# Altium schematic symbol library TTL_Library.SchLib: 480 symbols (part 3 of 4)
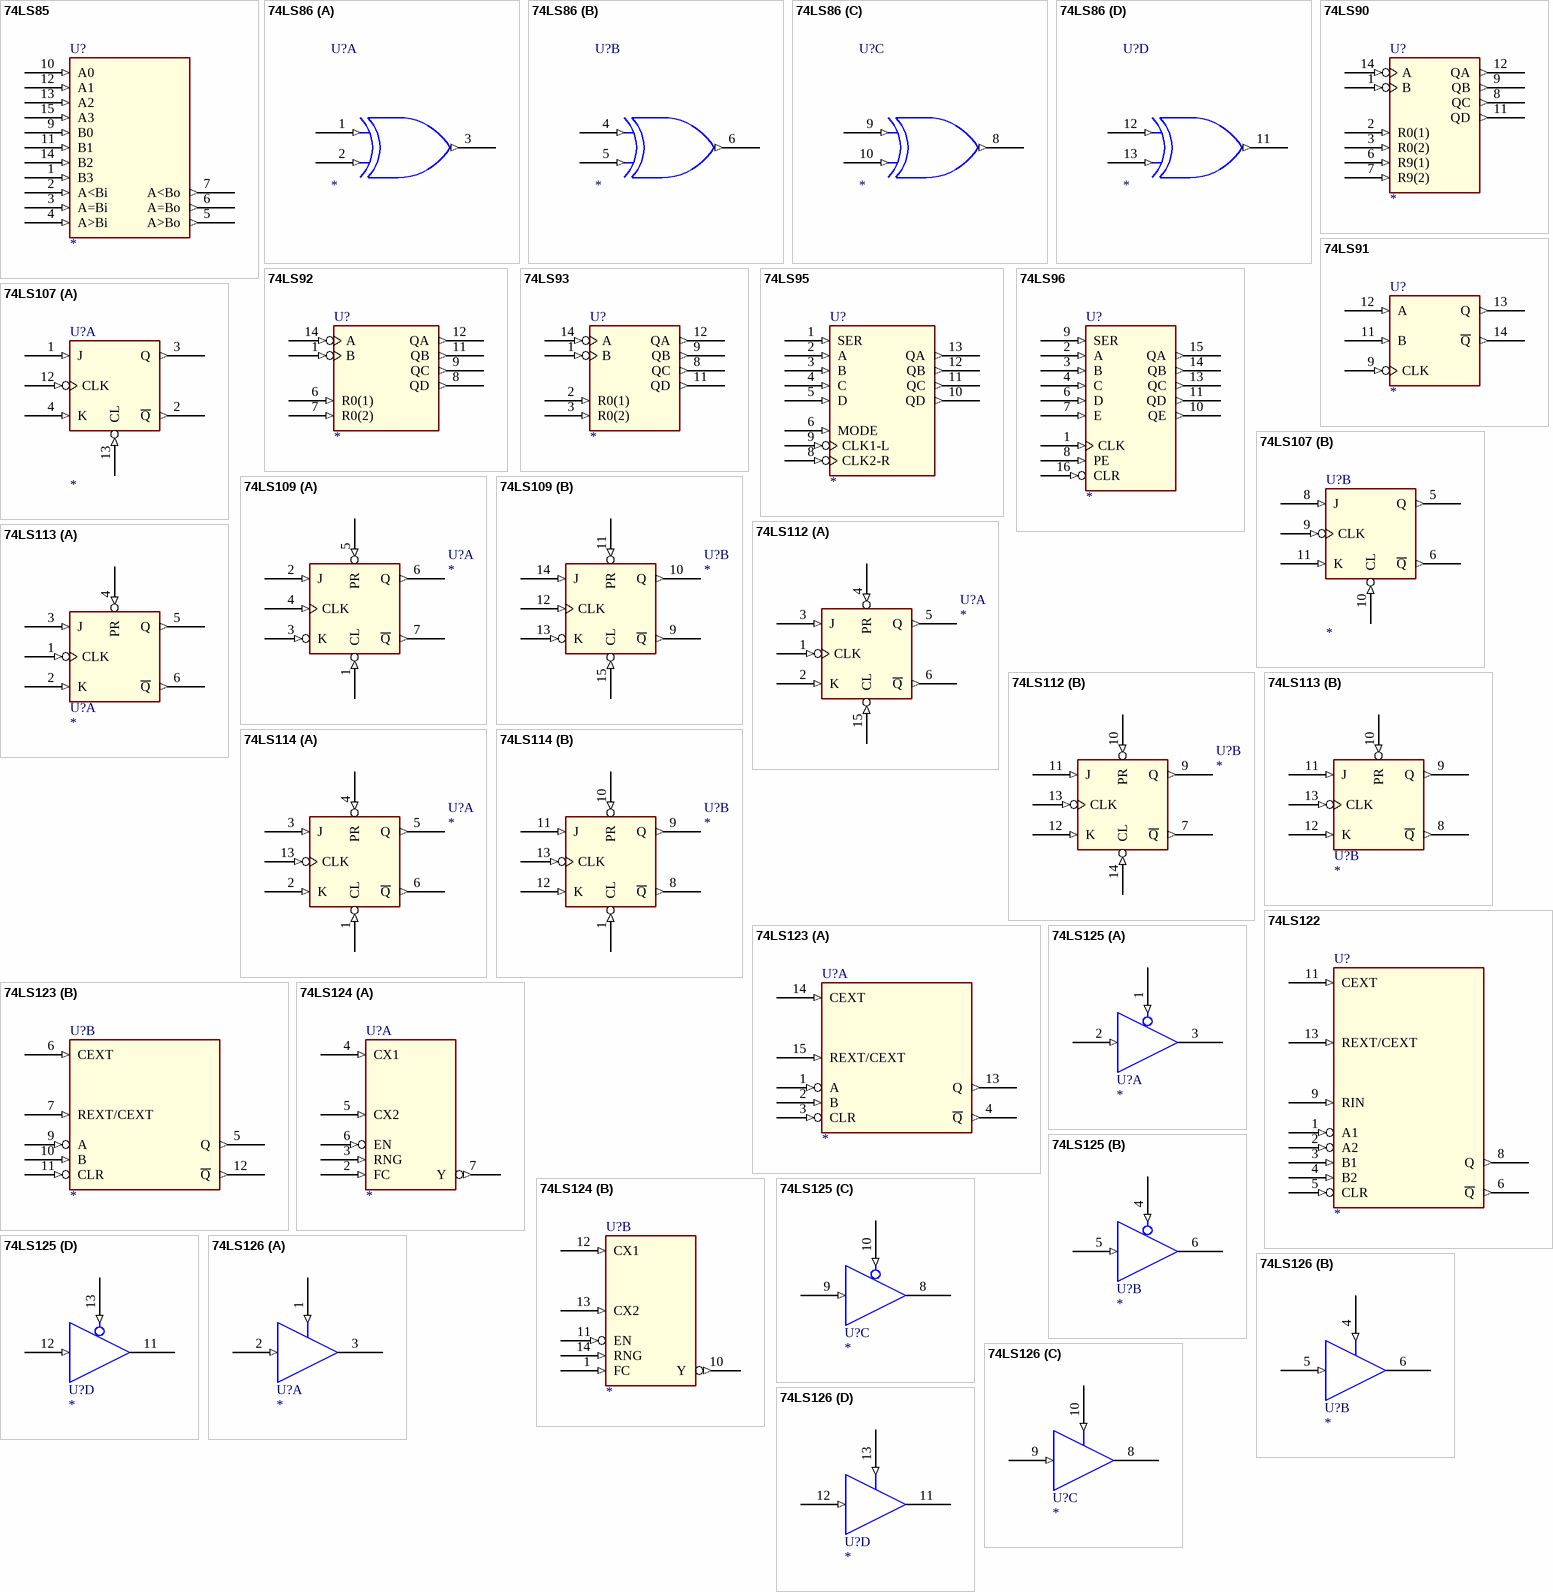
[diagram p27: symbols 74LS85 to 74LS126]

## 74LS92
designator U?
pins: 1 B (in), 5 VCC (power) hidden to VCC, 6 R0(1) (in), 7 R0(2) (in), 8 QD (out), 9 QC (out), 10 GND (power) hidden to GND, 11 QB (out), 12 QA (out), 14 A (in)

## 74LS93
designator U?
pins: 1 B (in), 2 R0(1) (in), 3 R0(2) (in), 5 VCC (power) hidden to VCC, 8 QC (out), 9 QB (out), 10 GND (power) hidden to GND, 11 QD (out), 12 QA (out), 14 A (in)

## 74LS95
designator U?
pins: 1 SER (in), 2 A (in), 3 B (in), 4 C (in), 5 D (in), 6 MODE (in), 7 GND (power) hidden to GND, 8 CLK2-R (in), 9 CLK1-L (in), 10 QD (out), 11 QC (out), 12 QB (out), 13 QA (out), 14 VCC (power) hidden to VCC

## 74LS96
designator U?
pins: 1 CLK (in), 2 A (in), 3 B (in), 4 C (in), 5 VCC (power) hidden to VCC, 6 D (in), 7 E (in), 8 PE (in), 9 SER (in), 10 QE (out), 11 QD (out), 12 GND (power) hidden to GND, 13 QC (out), 14 QB (out), 15 QA (out), 16 CLR (in)

## 74LS107
designator U?
part A pins: 1 J (in), 2 ~{Q} (out), 3 Q (out), 4 K (in), 7 GND (power) hidden to GND, 12 CLK (in), 13 CL (in), 14 VCC (power) hidden to VCC
part B pins: 5 Q (out), 6 ~{Q} (out), 7 GND (power) hidden to GND, 8 J (in), 9 CLK (in), 10 CL (in), 11 K (in), 14 VCC (power) hidden to VCC

## 74LS109
designator U?
part A pins: 1 CL (in), 2 J (in), 3 K (in), 4 CLK (in), 5 PR (in), 6 Q (out), 7 ~{Q} (out), 8 GND (power) hidden to GND, 16 VCC (power) hidden to VCC
part B pins: 8 GND (power) hidden to GND, 9 ~{Q} (out), 10 Q (out), 11 PR (in), 12 CLK (in), 13 K (in), 14 J (in), 15 CL (in), 16 VCC (power) hidden to VCC

## 74LS112
designator U?
part A pins: 1 CLK (in), 2 K (in), 3 J (in), 4 PR (in), 5 Q (out), 6 ~{Q} (out), 8 GND (power) hidden to GND, 15 CL (in), 16 VCC (power) hidden to VCC
part B pins: 7 ~{Q} (out), 8 GND (power) hidden to GND, 9 Q (out), 10 PR (in), 11 J (in), 12 K (in), 13 CLK (in), 14 CL (in), 16 VCC (power) hidden to VCC

## 74LS113
designator U?
part A pins: 1 CLK (in), 2 K (in), 3 J (in), 4 PR (in), 5 Q (out), 6 ~{Q} (out), 7 GND (power) hidden to GND, 14 VCC (power) hidden to VCC
part B pins: 7 GND (power) hidden to GND, 8 ~{Q} (out), 9 Q (out), 10 PR (in), 11 J (in), 12 K (in), 13 CLK (in), 14 VCC (power) hidden to VCC

## 74LS114
designator U?
part A pins: 1 CL (in), 2 K (in), 3 J (in), 4 PR (in), 5 Q (out), 6 ~{Q} (out), 7 GND (power) hidden to GND, 13 CLK (in), 14 VCC (power) hidden to VCC
part B pins: 1 CL (in), 7 GND (power) hidden to GND, 8 ~{Q} (out), 9 Q (out), 10 PR (in), 11 J (in), 12 K (in), 13 CLK (in), 14 VCC (power) hidden to VCC

## 74LS122
designator U?
pins: 1 A1 (in), 2 A2 (in), 3 B1 (in), 4 B2 (in), 5 CLR (in), 6 ~{Q} (out), 7 GND (power) hidden to GND, 8 Q (out), 9 RIN (in), 11 CEXT (in), 13 REXT/CEXT (in), 14 VCC (power) hidden to VCC

## 74LS123
designator U?
part A pins: 1 A (in), 2 B (in), 3 CLR (in), 4 ~{Q} (out), 8 GND (power) hidden to GND, 13 Q (out), 14 CEXT (in), 15 REXT/CEXT (in), 16 VCC (power) hidden to VCC
part B pins: 5 Q (out), 6 CEXT (in), 7 REXT/CEXT (in), 8 GND (power) hidden to GND, 9 A (in), 10 B (in), 11 CLR (in), 12 ~{Q} (out), 16 VCC (power) hidden to VCC

## 74LS124
designator U?
part A pins: 2 FC (in), 3 RNG (in), 4 CX1 (in), 5 CX2 (in), 6 EN (in), 7 Y (out), 8 VCOGND (power) hidden to VCOGND, 9 GND (power) hidden to GND, 15 VCOVCC (power) hidden to VCOVCC, 16 VCC (power) hidden to VCC
part B pins: 1 FC (in), 8 VCOGND (power) hidden to VCOGND, 9 GND (power) hidden to GND, 10 Y (out), 11 EN (in), 12 CX1 (in), 13 CX2 (in), 14 RNG (in), 15 VCOVCC (power) hidden to VCOVCC, 16 VCC (power) hidden to VCC

## 74LS125
designator U?
part A pins: 1 OE (in), 2 I (in), 3 O (hiz), 7 GND (power) hidden to GND, 14 VCC (power) hidden to VCC
part B pins: 4 OE (in), 5 I (in), 6 O (hiz), 7 GND (power) hidden to GND, 14 VCC (power) hidden to VCC
part C pins: 7 GND (power) hidden to GND, 8 O (hiz), 9 I (in), 10 OE (in), 14 VCC (power) hidden to VCC
part D pins: 7 GND (power) hidden to GND, 11 O (hiz), 12 I (in), 13 OE (in), 14 VCC (power) hidden to VCC
1 alternate drawing of the same symbol

## 74LS126
designator U?
part A pins: 1 OE (in), 2 I (in), 3 O (hiz), 7 GND (power) hidden to GND, 14 VCC (power) hidden to VCC
part B pins: 4 OE (in), 5 I (in), 6 O (hiz), 7 GND (power) hidden to GND, 14 VCC (power) hidden to VCC
part C pins: 7 GND (power) hidden to GND, 8 O (hiz), 9 I (in), 10 OE (in), 14 VCC (power) hidden to VCC
part D pins: 7 GND (power) hidden to GND, 11 O (hiz), 12 I (in), 13 OE (in), 14 VCC (power) hidden to VCC
1 alternate drawing of the same symbol

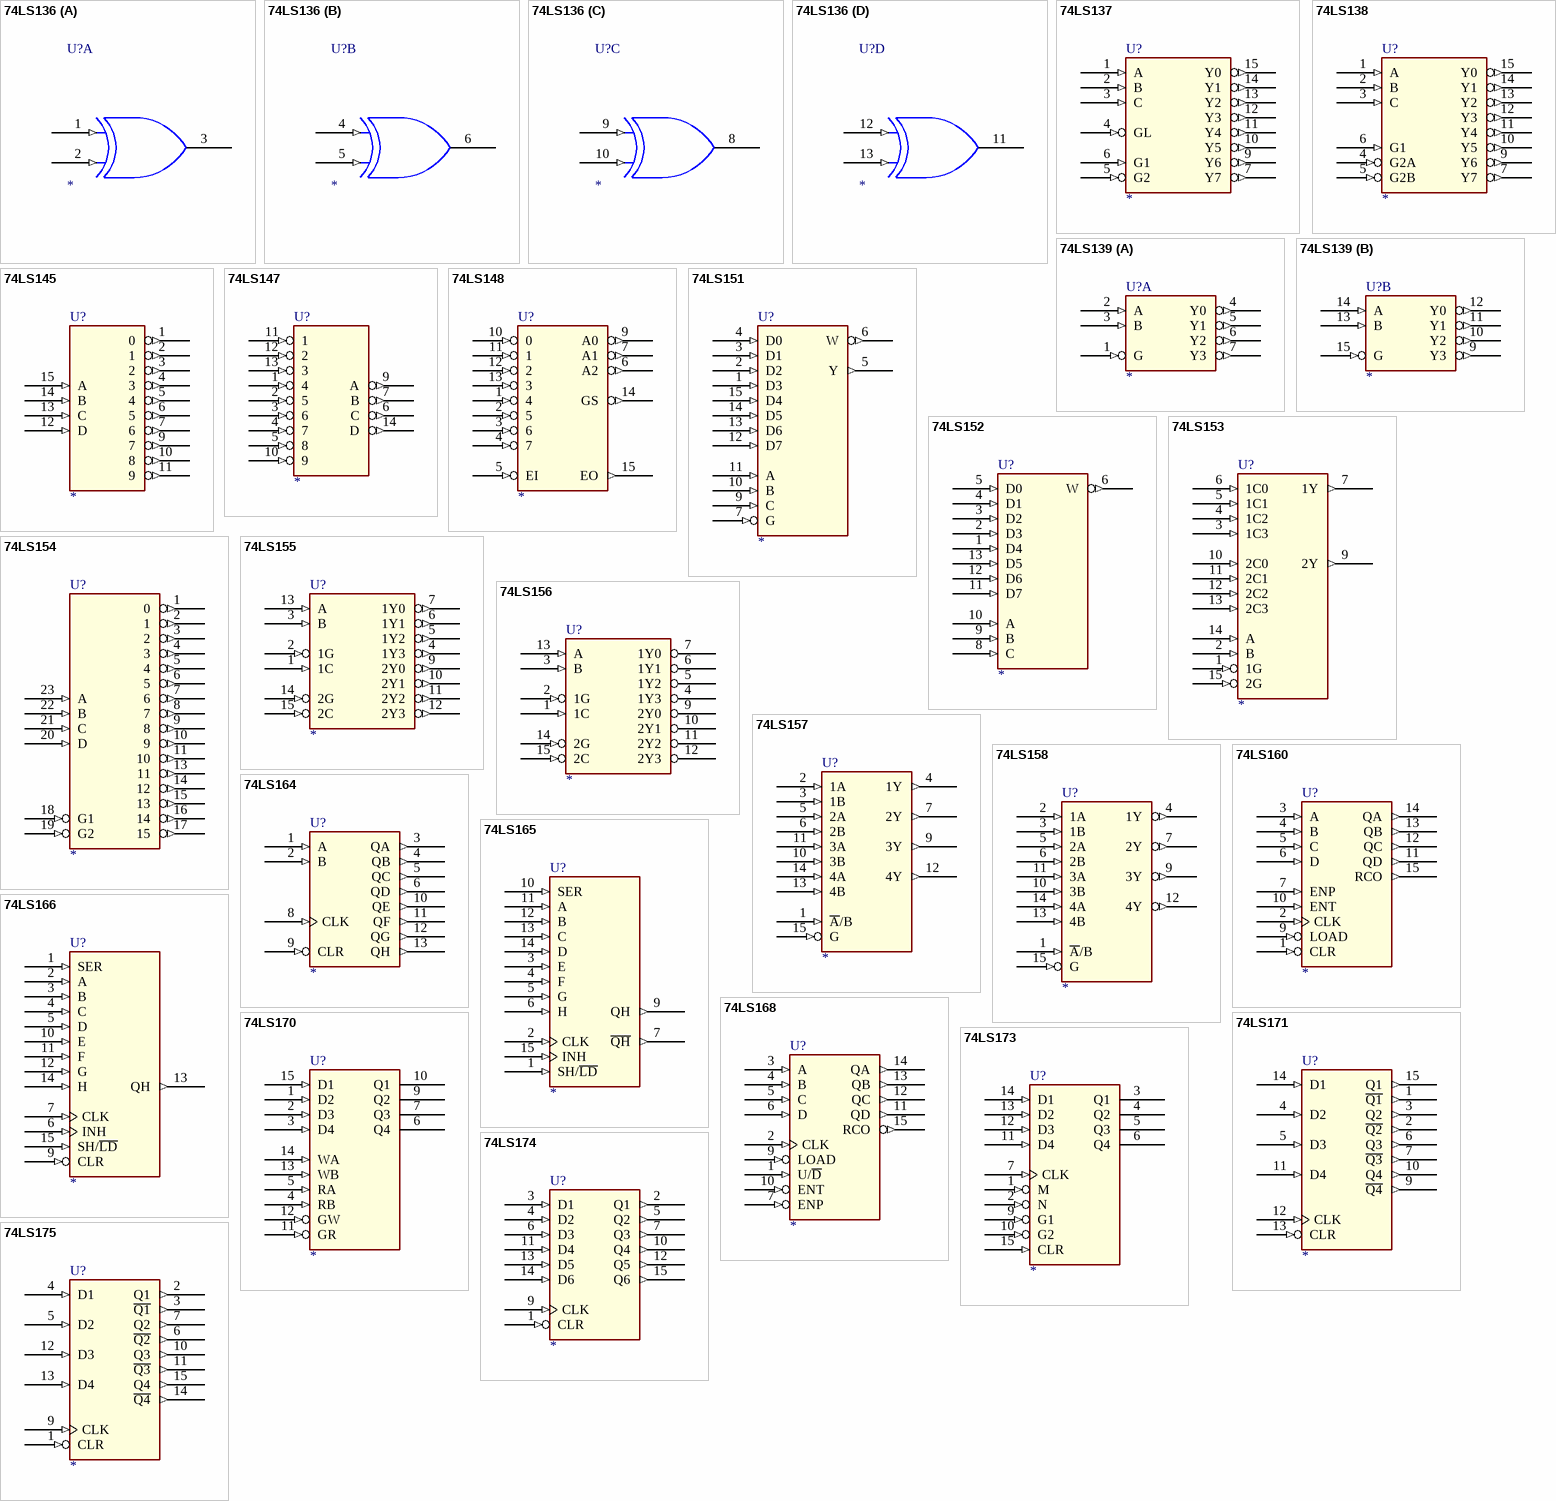
[diagram p16: symbols 74LS136 to 74LS175]

## 74LS136
designator U?
part A pins: 1 I0 (in), 2 I1 (in), 3 O (oc), 7 GND (power) hidden to GND, 14 VCC (power) hidden to VCC
part B pins: 4 I0 (in), 5 I1 (in), 6 O (oc), 7 GND (power) hidden to GND, 14 VCC (power) hidden to VCC
part C pins: 7 GND (power) hidden to GND, 8 O (oc), 9 I0 (in), 10 I1 (in), 14 VCC (power) hidden to VCC
part D pins: 7 GND (power) hidden to GND, 11 O (oc), 12 I0 (in), 13 I1 (in), 14 VCC (power) hidden to VCC

## 74LS137
designator U?
pins: 1 A (in), 2 B (in), 3 C (in), 4 GL (in), 5 G2 (in), 6 G1 (in), 7 Y7 (out), 8 GND (power) hidden to GND, 9 Y6 (out), 10 Y5 (out), 11 Y4 (out), 12 Y3 (out), 13 Y2 (out), 14 Y1 (out), 15 Y0 (out), 16 VCC (power) hidden to VCC

## 74LS138
designator U?
pins: 1 A (in), 2 B (in), 3 C (in), 4 G2A (in), 5 G2B (in), 6 G1 (in), 7 Y7 (out), 8 GND (power) hidden to GND, 9 Y6 (out), 10 Y5 (out), 11 Y4 (out), 12 Y3 (out), 13 Y2 (out), 14 Y1 (out), 15 Y0 (out), 16 VCC (power) hidden to VCC

## 74LS139
designator U?
part A pins: 1 G (in), 2 A (in), 3 B (in), 4 Y0 (out), 5 Y1 (out), 6 Y2 (out), 7 Y3 (out), 8 GND (power) hidden to GND, 16 VCC (power) hidden to VCC
part B pins: 8 GND (power) hidden to GND, 9 Y3 (out), 10 Y2 (out), 11 Y1 (out), 12 Y0 (out), 13 B (in), 14 A (in), 15 G (in), 16 VCC (power) hidden to VCC

## 74LS145
designator U?
pins: 1 0 (out), 2 1 (out), 3 2 (out), 4 3 (out), 5 4 (out), 6 5 (out), 7 6 (out), 8 GND (power) hidden to GND, 9 7 (out), 10 8 (out), 11 9 (out), 12 D (in), 13 C (in), 14 B (in), 15 A (in), 16 VCC (power) hidden to VCC

## 74LS147
designator U?
pins: 1 4 (in), 2 5 (in), 3 6 (in), 4 7 (in), 5 8 (in), 6 C (out), 7 B (out), 8 GND (power) hidden to GND, 9 A (out), 10 9 (in), 11 1 (in), 12 2 (in), 13 3 (in), 14 D (out), 16 VCC (power) hidden to VCC

## 74LS148
designator U?
pins: 1 4 (in), 2 5 (in), 3 6 (in), 4 7 (in), 5 EI (in), 6 A2 (out), 7 A1 (out), 8 GND (power) hidden to GND, 9 A0 (out), 10 0 (in), 11 1 (in), 12 2 (in), 13 3 (in), 14 GS (out), 15 EO (out), 16 VCC (power) hidden to VCC

## 74LS151
designator U?
pins: 1 D3 (in), 2 D2 (in), 3 D1 (in), 4 D0 (in), 5 Y (out), 6 W (out), 7 G (in), 8 GND (power) hidden to GND, 9 C (in), 10 B (in), 11 A (in), 12 D7 (in), 13 D6 (in), 14 D5 (in), 15 D4 (in), 16 VCC (power) hidden to VCC

## 74LS152
designator U?
pins: 1 D4 (in), 2 D3 (in), 3 D2 (in), 4 D1 (in), 5 D0 (in), 6 W (out), 7 GND (power) hidden to GND, 8 C (in), 9 B (in), 10 A (in), 11 D7 (in), 12 D6 (in), 13 D5 (in), 14 VCC (power) hidden to VCC

## 74LS153
designator U?
pins: 1 1G (in), 2 B (in), 3 1C3 (in), 4 1C2 (in), 5 1C1 (in), 6 1C0 (in), 7 1Y (out), 8 GND (power) hidden to GND, 9 2Y (out), 10 2C0 (in), 11 2C1 (in), 12 2C2 (in), 13 2C3 (in), 14 A (in), 15 2G (in), 16 VCC (power) hidden to VCC

## 74LS154
designator U?
pins: 1 0 (out), 2 1 (out), 3 2 (out), 4 3 (out), 5 4 (out), 6 5 (out), 7 6 (out), 8 7 (out), 9 8 (out), 10 9 (out), 11 10 (out), 12 GND (power) hidden to GND, 13 11 (out), 14 12 (out), 15 13 (out), 16 14 (out), 17 15 (out), 18 G1 (in), 19 G2 (in), 20 D (in), 21 C (in), 22 B (in), 23 A (in), 24 VCC (power) hidden to VCC

## 74LS155
designator U?
pins: 1 1C (in), 2 1G (in), 3 B (in), 4 1Y3 (out), 5 1Y2 (out), 6 1Y1 (out), 7 1Y0 (out), 8 GND (power) hidden to GND, 9 2Y0 (out), 10 2Y1 (out), 11 2Y2 (out), 12 2Y3 (out), 13 A (in), 14 2G (in), 15 2C (in), 16 VCC (power) hidden to VCC

## 74LS156
designator U?
pins: 1 1C (in), 2 1G (in), 3 B (in), 4 1Y3 (oc), 5 1Y2 (oc), 6 1Y1 (oc), 7 1Y0 (oc), 8 GND (power) hidden to GND, 9 2Y0 (oc), 10 2Y1 (oc), 11 2Y2 (oc), 12 2Y3 (oc), 13 A (in), 14 2G (in), 15 2C (in), 16 VCC (power) hidden to VCC

## 74LS157
designator U?
pins: 1 ~{A}/B (in), 2 1A (in), 3 1B (in), 4 1Y (out), 5 2A (in), 6 2B (in), 7 2Y (out), 8 GND (power) hidden to GND, 9 3Y (out), 10 3B (in), 11 3A (in), 12 4Y (out), 13 4B (in), 14 4A (in), 15 G (in), 16 VCC (power) hidden to VCC

## 74LS158
designator U?
pins: 1 ~{A}/B (in), 2 1A (in), 3 1B (in), 4 1Y (out), 5 2A (in), 6 2B (in), 7 2Y (out), 8 GND (power) hidden to GND, 9 3Y (out), 10 3B (in), 11 3A (in), 12 4Y (out), 13 4B (in), 14 4A (in), 15 G (in), 16 VCC (power) hidden to VCC

## 74LS160
designator U?
pins: 1 CLR (in), 2 CLK (in), 3 A (in), 4 B (in), 5 C (in), 6 D (in), 7 ENP (in), 8 GND (power) hidden to GND, 9 LOAD (in), 10 ENT (in), 11 QD (out), 12 QC (out), 13 QB (out), 14 QA (out), 15 RCO (out), 16 VCC (power) hidden to VCC

## 74LS164
designator U?
pins: 1 A (in), 2 B (in), 3 QA (out), 4 QB (out), 5 QC (out), 6 QD (out), 7 GND (power) hidden to GND, 8 CLK (in), 9 CLR (in), 10 QE (out), 11 QF (out), 12 QG (out), 13 QH (out), 14 VCC (power) hidden to VCC

## 74LS165
designator U?
pins: 1 SH/~{LD} (in), 2 CLK (in), 3 E (in), 4 F (in), 5 G (in), 6 H (in), 7 ~{QH} (out), 8 GND (power) hidden to GND, 9 QH (out), 10 SER (in), 11 A (in), 12 B (in), 13 C (in), 14 D (in), 15 INH (in), 16 VCC (power) hidden to VCC

## 74LS166
designator U?
pins: 1 SER (in), 2 A (in), 3 B (in), 4 C (in), 5 D (in), 6 INH (in), 7 CLK (in), 8 GND (power) hidden to GND, 9 CLR (in), 10 E (in), 11 F (in), 12 G (in), 13 QH (out), 14 H (in), 15 SH/~{LD} (in), 16 VCC (power) hidden to VCC

## 74LS168
designator U?
pins: 1 U/~{D} (in), 2 CLK (in), 3 A (in), 4 B (in), 5 C (in), 6 D (in), 7 ENP (in), 8 GND (power) hidden to GND, 9 LOAD (in), 10 ENT (in), 11 QD (out), 12 QC (out), 13 QB (out), 14 QA (out), 15 RCO (out), 16 VCC (power) hidden to VCC

## 74LS170
designator U?
pins: 1 D2 (in), 2 D3 (in), 3 D4 (in), 4 RB (in), 5 RA (in), 6 Q4 (oc), 7 Q3 (oc), 8 GND (power) hidden to GND, 9 Q2 (oc), 10 Q1 (oc), 11 GR (in), 12 GW (in), 13 WB (in), 14 WA (in), 15 D1 (in), 16 VCC (power) hidden to VCC

## 74LS171
designator U?
pins: 1 ~{Q1} (out), 2 ~{Q2} (out), 3 Q2 (out), 4 D2 (in), 5 D3 (in), 6 Q3 (out), 7 ~{Q3} (out), 8 GND (power) hidden to GND, 9 ~{Q4} (out), 10 Q4 (out), 11 D4 (in), 12 CLK (in), 13 CLR (in), 14 D1 (in), 15 Q1 (out), 16 VCC (power) hidden to VCC

## 74LS173
designator U?
pins: 1 M (in), 2 N (in), 3 Q1 (hiz), 4 Q2 (hiz), 5 Q3 (hiz), 6 Q4 (hiz), 7 CLK (in), 8 GND (power) hidden to GND, 9 G1 (in), 10 G2 (in), 11 D4 (in), 12 D3 (in), 13 D2 (in), 14 D1 (in), 15 CLR (in), 16 VCC (power) hidden to VCC

## 74LS174
designator U?
pins: 1 CLR (in), 2 Q1 (out), 3 D1 (in), 4 D2 (in), 5 Q2 (out), 6 D3 (in), 7 Q3 (out), 8 GND (power) hidden to GND, 9 CLK (in), 10 Q4 (out), 11 D4 (in), 12 Q5 (out), 13 D5 (in), 14 D6 (in), 15 Q6 (out), 16 VCC (power) hidden to VCC

## 74LS175
designator U?
pins: 1 CLR (in), 2 Q1 (out), 3 ~{Q1} (out), 4 D1 (in), 5 D2 (in), 6 ~{Q2} (out), 7 Q2 (out), 8 GND (power) hidden to GND, 9 CLK (in), 10 Q3 (out), 11 ~{Q3} (out), 12 D3 (in), 13 D4 (in), 14 ~{Q4} (out), 15 Q4 (out), 16 VCC (power) hidden to VCC

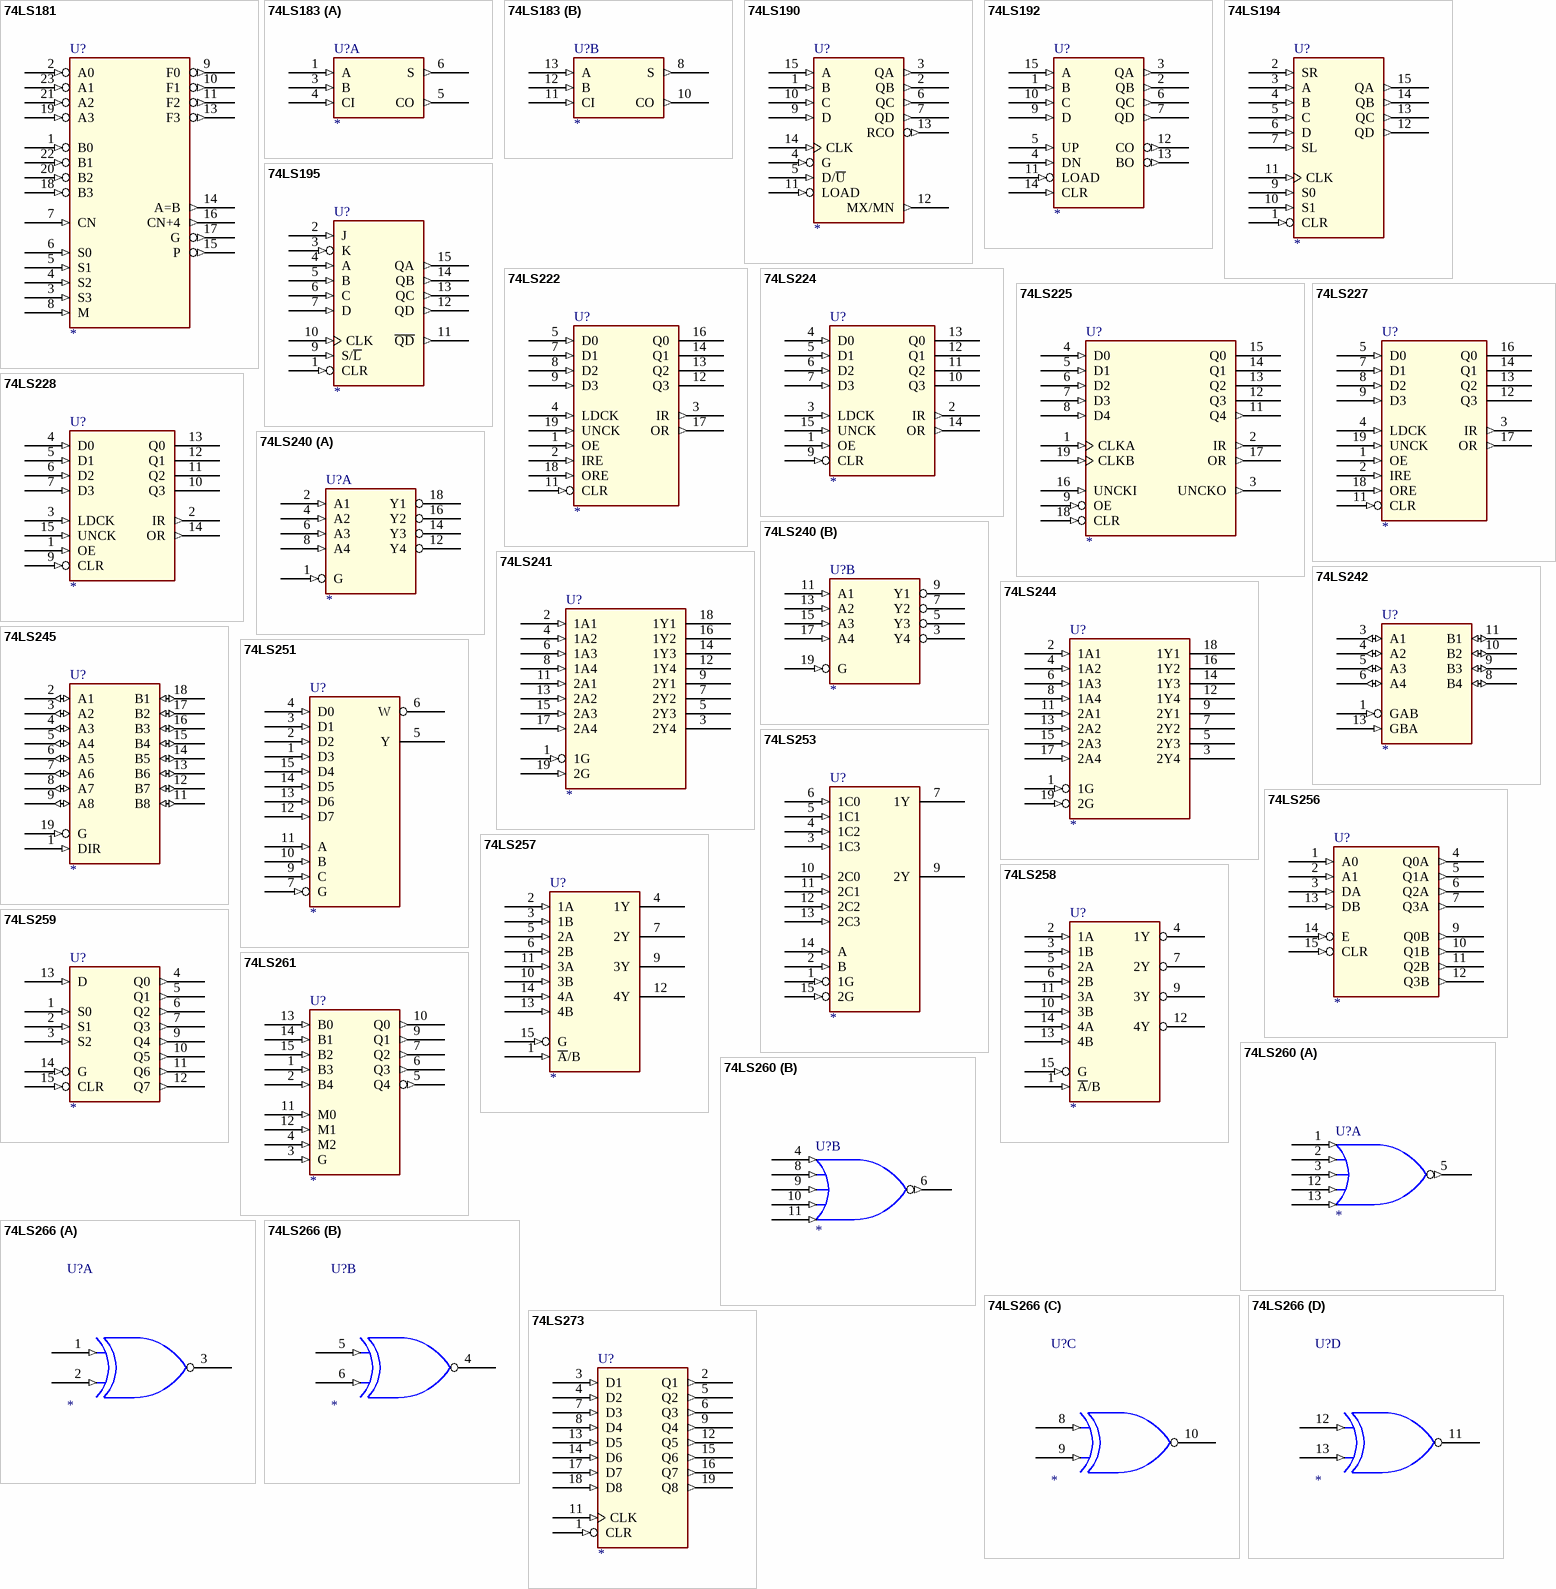
[diagram p17: symbols 74LS181 to 74LS273]

## 74LS181
designator U?
pins: 1 B0 (in), 2 A0 (in), 3 S3 (in), 4 S2 (in), 5 S1 (in), 6 S0 (in), 7 CN (in), 8 M (in), 9 F0 (out), 10 F1 (out), 11 F2 (out), 12 GND (power) hidden to GND, 13 F3 (out), 14 A=B (out), 15 P (out), 16 CN+4 (out), 17 G (out), 18 B3 (in), 19 A3 (in), 20 B2 (in), 21 A2 (in), 22 B1 (in), 23 A1 (in), 24 VCC (power) hidden to VCC

## 74LS183
designator U?
part A pins: 1 A (in), 3 B (in), 4 CI (in), 5 CO (out), 6 S (out), 7 GND (power) hidden to GND, 14 VCC (power) hidden to VCC
part B pins: 7 GND (power) hidden to GND, 8 S (out), 10 CO (out), 11 CI (in), 12 B (in), 13 A (in), 14 VCC (power) hidden to VCC

## 74LS190
designator U?
pins: 1 B (in), 2 QB (out), 3 QA (out), 4 G (in), 5 D/~{U} (in), 6 QC (out), 7 QD (out), 8 GND (power) hidden to GND, 9 D (in), 10 C (in), 11 LOAD (in), 12 MX/MN (out), 13 RCO (out), 14 CLK (in), 15 A (in), 16 VCC (power) hidden to VCC

## 74LS192
designator U?
pins: 1 B (in), 2 QB (out), 3 QA (out), 4 DN (in), 5 UP (in), 6 QC (out), 7 QD (out), 8 GND (power) hidden to GND, 9 D (in), 10 C (in), 11 LOAD (in), 12 CO (out), 13 BO (out), 14 CLR (in), 15 A (in), 16 VCC (power) hidden to VCC

## 74LS194
designator U?
pins: 1 CLR (in), 2 SR (in), 3 A (in), 4 B (in), 5 C (in), 6 D (in), 7 SL (in), 8 GND (power) hidden to GND, 9 S0 (in), 10 S1 (in), 11 CLK (in), 12 QD (out), 13 QC (out), 14 QB (out), 15 QA (out), 16 VCC (power) hidden to VCC

## 74LS195
designator U?
pins: 1 CLR (in), 2 J (in), 3 K (in), 4 A (in), 5 B (in), 6 C (in), 7 D (in), 8 GND (power) hidden to GND, 9 S/~{L} (in), 10 CLK (in), 11 ~{QD} (out), 12 QD (out), 13 QC (out), 14 QB (out), 15 QA (out), 16 VCC (power) hidden to VCC

## 74LS222
designator U?
pins: 1 OE (in), 2 IRE (in), 3 IR (out), 4 LDCK (in), 5 D0 (in), 7 D1 (in), 8 D2 (in), 9 D3 (in), 10 GND (power) hidden to GND, 11 CLR (in), 12 Q3 (hiz), 13 Q2 (hiz), 14 Q1 (hiz), 16 Q0 (hiz), 17 OR (out), 18 ORE (in), 19 UNCK (in), 20 VCC (power) hidden to VCC

## 74LS224
designator U?
pins: 1 OE (in), 2 IR (out), 3 LDCK (in), 4 D0 (in), 5 D1 (in), 6 D2 (in), 7 D3 (in), 8 GND (power) hidden to GND, 9 CLR (in), 10 Q3 (hiz), 11 Q2 (hiz), 12 Q1 (hiz), 13 Q0 (hiz), 14 OR (out), 15 UNCK (in), 16 VCC (power) hidden to VCC

## 74LS225
designator U?
pins: 1 CLKA (in), 2 IR (out), 3 UNCKO (out), 4 D0 (in), 5 D1 (in), 6 D2 (in), 7 D3 (in), 8 D4 (in), 9 OE (in), 10 GND (power) hidden to GND, 11 Q4 (out), 12 Q3 (oc), 13 Q2 (oc), 14 Q1 (oc), 15 Q0 (oc), 16 UNCKI (in), 17 OR (out), 18 CLR (in), 19 CLKB (in), 20 VCC (power) hidden to VCC

## 74LS227
designator U?
pins: 1 OE (in), 2 IRE (in), 3 IR (out), 4 LDCK (in), 5 D0 (in), 7 D1 (in), 8 D2 (in), 9 D3 (in), 10 GND (power) hidden to GND, 11 CLR (in), 12 Q3 (oc), 13 Q2 (oc), 14 Q1 (oc), 16 Q0 (oc), 17 OR (out), 18 ORE (in), 19 UNCK (in), 20 VCC (power) hidden to VCC

## 74LS228
designator U?
pins: 1 OE (in), 2 IR (out), 3 LDCK (in), 4 D0 (in), 5 D1 (in), 6 D2 (in), 7 D3 (in), 8 GND (power) hidden to GND, 9 CLR (in), 10 Q3 (oc), 11 Q2 (oc), 12 Q1 (oc), 13 Q0 (oc), 14 OR (out), 15 UNCK (in), 16 VCC (power) hidden to VCC

## 74LS240
designator U?
part A pins: 1 G (in), 2 A1 (in), 4 A2 (in), 6 A3 (in), 8 A4 (in), 10 GND (power) hidden to GND, 12 Y4 (hiz), 14 Y3 (hiz), 16 Y2 (hiz), 18 Y1 (hiz), 20 VCC (power) hidden to VCC
part B pins: 3 Y4 (hiz), 5 Y3 (hiz), 7 Y2 (hiz), 9 Y1 (hiz), 10 GND (power) hidden to GND, 11 A1 (in), 13 A2 (in), 15 A3 (in), 17 A4 (in), 19 G (in), 20 VCC (power) hidden to VCC

## 74LS241
designator U?
pins: 1 1G (in), 2 1A1 (in), 3 2Y4 (hiz), 4 1A2 (in), 5 2Y3 (hiz), 6 1A3 (in), 7 2Y2 (hiz), 8 1A4 (in), 9 2Y1 (hiz), 10 GND (power) hidden to GND, 11 2A1 (in), 12 1Y4 (hiz), 13 2A2 (in), 14 1Y3 (hiz), 15 2A3 (in), 16 1Y2 (hiz), 17 2A4 (in), 18 1Y1 (hiz), 19 2G (in), 20 VCC (power) hidden to VCC

## 74LS242
designator U?
pins: 1 GAB (in), 3 A1 (io), 4 A2 (io), 5 A3 (io), 6 A4 (io), 7 GND (power) hidden to GND, 8 B4 (io), 9 B3 (io), 10 B2 (io), 11 B1 (io), 13 GBA (in), 14 VCC (power) hidden to VCC

## 74LS244
designator U?
pins: 1 1G (in), 2 1A1 (in), 3 2Y4 (hiz), 4 1A2 (in), 5 2Y3 (hiz), 6 1A3 (in), 7 2Y2 (hiz), 8 1A4 (in), 9 2Y1 (hiz), 10 GND (power) hidden to GND, 11 2A1 (in), 12 1Y4 (hiz), 13 2A2 (in), 14 1Y3 (hiz), 15 2A3 (in), 16 1Y2 (hiz), 17 2A4 (in), 18 1Y1 (hiz), 19 2G (in), 20 VCC (power) hidden to VCC

## 74LS245
designator U?
pins: 1 DIR (in), 2 A1 (io), 3 A2 (io), 4 A3 (io), 5 A4 (io), 6 A5 (io), 7 A6 (io), 8 A7 (io), 9 A8 (io), 10 GND (power) hidden to GND, 11 B8 (io), 12 B7 (io), 13 B6 (io), 14 B5 (io), 15 B4 (io), 16 B3 (io), 17 B2 (io), 18 B1 (io), 19 G (in), 20 VCC (power) hidden to VCC

## 74LS251
designator U?
pins: 1 D3 (in), 2 D2 (in), 3 D1 (in), 4 D0 (in), 5 Y (hiz), 6 W (hiz), 7 G (in), 8 GND (power) hidden to GND, 9 C (in), 10 B (in), 11 A (in), 12 D7 (in), 13 D6 (in), 14 D5 (in), 15 D4 (in), 16 VCC (power) hidden to VCC

## 74LS253
designator U?
pins: 1 1G (in), 2 B (in), 3 1C3 (in), 4 1C2 (in), 5 1C1 (in), 6 1C0 (in), 7 1Y (hiz), 8 GND (power) hidden to GND, 9 2Y (hiz), 10 2C0 (in), 11 2C1 (in), 12 2C2 (in), 13 2C3 (in), 14 A (in), 15 2G (in), 16 VCC (power) hidden to VCC

## 74LS256
designator U?
pins: 1 A0 (in), 2 A1 (in), 3 DA (in), 4 Q0A (out), 5 Q1A (out), 6 Q2A (out), 7 Q3A (out), 8 GND (power) hidden to GND, 9 Q0B (out), 10 Q1B (out), 11 Q2B (out), 12 Q3B (out), 13 DB (in), 14 E (in), 15 CLR (in), 16 VCC (power) hidden to VCC

## 74LS257
designator U?
pins: 1 ~{A}/B (in), 2 1A (in), 3 1B (in), 4 1Y (hiz), 5 2A (in), 6 2B (in), 7 2Y (hiz), 8 GND (power) hidden to GND, 9 3Y (hiz), 10 3B (in), 11 3A (in), 12 4Y (hiz), 13 4B (in), 14 4A (in), 15 G (in), 16 VCC (power) hidden to VCC

## 74LS258
designator U?
pins: 1 ~{A}/B (in), 2 1A (in), 3 1B (in), 4 1Y (hiz), 5 2A (in), 6 2B (in), 7 2Y (hiz), 8 GND (power) hidden to GND, 9 3Y (hiz), 10 3B (in), 11 3A (in), 12 4Y (hiz), 13 4B (in), 14 4A (in), 15 G (in), 16 VCC (power) hidden to VCC

## 74LS259
designator U?
pins: 1 S0 (in), 2 S1 (in), 3 S2 (in), 4 Q0 (out), 5 Q1 (out), 6 Q2 (out), 7 Q3 (out), 8 GND (power) hidden to GND, 9 Q4 (out), 10 Q5 (out), 11 Q6 (out), 12 Q7 (out), 13 D (in), 14 G (in), 15 CLR (in), 16 VCC (power) hidden to VCC

## 74LS260
designator U?
part A pins: 1 I0 (in), 2 I1 (in), 3 I2 (in), 5 O (out), 7 GND (power) hidden to GND, 12 I3 (in), 13 I4 (in), 14 VCC (power) hidden to VCC
part B pins: 4 I0 (in), 6 O (out), 7 GND (power) hidden to GND, 8 I1 (in), 9 I2 (in), 10 I3 (in), 11 I4 (in), 14 VCC (power) hidden to VCC
1 alternate drawing of the same symbol

## 74LS261
designator U?
pins: 1 B3 (in), 2 B4 (in), 3 G (in), 4 M2 (in), 5 Q4 (out), 6 Q3 (out), 7 Q2 (out), 8 GND (power) hidden to GND, 9 Q1 (out), 10 Q0 (out), 11 M0 (in), 12 M1 (in), 13 B0 (in), 14 B1 (in), 15 B2 (in), 16 VCC (power) hidden to VCC

## 74LS266
designator U?
part A pins: 1 I0 (in), 2 I1 (in), 3 O (oc), 7 GND (power) hidden to GND, 14 VCC (power) hidden to VCC
part B pins: 4 O (oc), 5 I0 (in), 6 I1 (in), 7 GND (power) hidden to GND, 14 VCC (power) hidden to VCC
part C pins: 7 GND (power) hidden to GND, 8 I0 (in), 9 I1 (in), 10 O (oc), 14 VCC (power) hidden to VCC
part D pins: 7 GND (power) hidden to GND, 11 O (oc), 12 I0 (in), 13 I1 (in), 14 VCC (power) hidden to VCC

## 74LS273
designator U?
pins: 1 CLR (in), 2 Q1 (out), 3 D1 (in), 4 D2 (in), 5 Q2 (out), 6 Q3 (out), 7 D3 (in), 8 D4 (in), 9 Q4 (out), 10 GND (power) hidden to GND, 11 CLK (in), 12 Q5 (out), 13 D5 (in), 14 D6 (in), 15 Q6 (out), 16 Q7 (out), 17 D7 (in), 18 D8 (in), 19 Q8 (out), 20 VCC (power) hidden to VCC

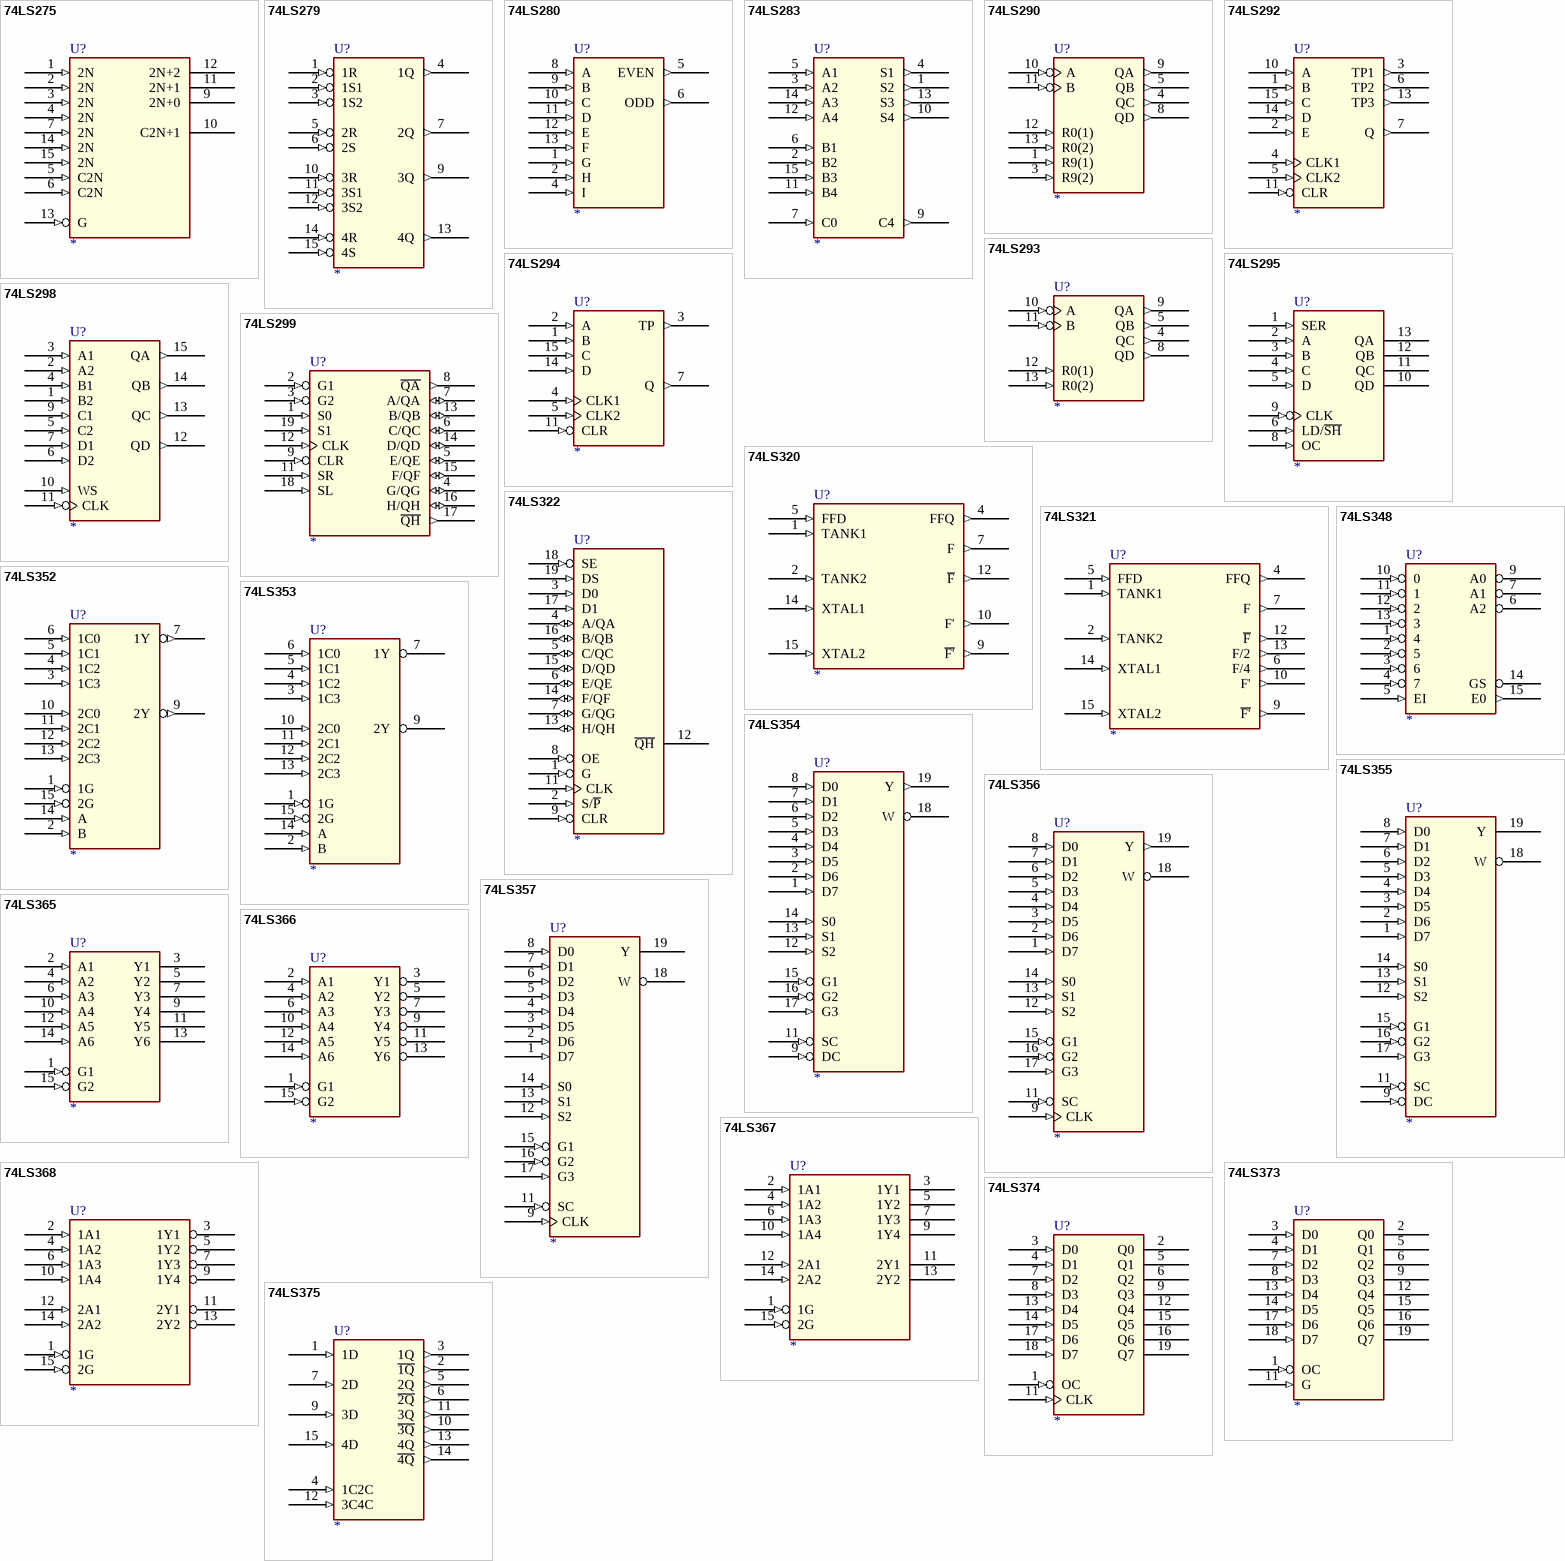
[diagram p18: symbols 74LS275 to 74LS375]

## 74LS275
designator U?
pins: 1 2N (in), 2 2N (in), 3 2N (in), 4 2N (in), 5 C2N (in), 6 C2N (in), 7 2N (in), 8 GND (power) hidden to GND, 9 2N+0 (hiz), 10 C2N+1 (hiz), 11 2N+1 (hiz), 12 2N+2 (hiz), 13 G (in), 14 2N (in), 15 2N (in), 16 VCC (power) hidden to VCC

## 74LS279
designator U?
pins: 1 1R (in), 2 1S1 (in), 3 1S2 (in), 4 1Q (out), 5 2R (in), 6 2S (in), 7 2Q (out), 8 GND (power) hidden to GND, 9 3Q (out), 10 3R (in), 11 3S1 (in), 12 3S2 (in), 13 4Q (out), 14 4R (in), 15 4S (in), 16 VCC (power) hidden to VCC

## 74LS280
designator U?
pins: 1 G (in), 2 H (in), 4 I (in), 5 EVEN (out), 6 ODD (out), 7 GND (power) hidden to GND, 8 A (in), 9 B (in), 10 C (in), 11 D (in), 12 E (in), 13 F (in), 14 VCC (power) hidden to VCC

## 74LS283
designator U?
pins: 1 S2 (out), 2 B2 (in), 3 A2 (in), 4 S1 (out), 5 A1 (in), 6 B1 (in), 7 C0 (in), 8 GND (power) hidden to GND, 9 C4 (out), 10 S4 (out), 11 B4 (in), 12 A4 (in), 13 S3 (out), 14 A3 (in), 15 B3 (in), 16 VCC (power) hidden to VCC

## 74LS290
designator U?
pins: 1 R9(1) (in), 3 R9(2) (in), 4 QC (out), 5 QB (out), 7 GND (power) hidden to GND, 8 QD (out), 9 QA (out), 10 A (in), 11 B (in), 12 R0(1) (in), 13 R0(2) (in), 14 VCC (power) hidden to VCC

## 74LS292
designator U?
pins: 1 B (in), 2 E (in), 3 TP1 (out), 4 CLK1 (in), 5 CLK2 (in), 6 TP2 (out), 7 Q (out), 8 GND (power) hidden to GND, 10 A (in), 11 CLR (in), 13 TP3 (out), 14 D (in), 15 C (in), 16 VCC (power) hidden to VCC

## 74LS293
designator U?
pins: 4 QC (out), 5 QB (out), 7 GND (power) hidden to GND, 8 QD (out), 9 QA (out), 10 A (in), 11 B (in), 12 R0(1) (in), 13 R0(2) (in), 14 VCC (power) hidden to VCC

## 74LS294
designator U?
pins: 1 B (in), 2 A (in), 3 TP (out), 4 CLK1 (in), 5 CLK2 (in), 7 Q (out), 8 GND (power) hidden to GND, 11 CLR (in), 14 D (in), 15 C (in), 16 VCC (power) hidden to VCC

## 74LS295
designator U?
pins: 1 SER (in), 2 A (in), 3 B (in), 4 C (in), 5 D (in), 6 LD/~{SH} (in), 7 GND (power) hidden to GND, 8 OC (in), 9 CLK (in), 10 QD (hiz), 11 QC (hiz), 12 QB (hiz), 13 QA (hiz), 14 VCC (power) hidden to VCC

## 74LS298
designator U?
pins: 1 B2 (in), 2 A2 (in), 3 A1 (in), 4 B1 (in), 5 C2 (in), 6 D2 (in), 7 D1 (in), 8 GND (power) hidden to GND, 9 C1 (in), 10 WS (in), 11 CLK (in), 12 QD (out), 13 QC (out), 14 QB (out), 15 QA (out), 16 VCC (power) hidden to VCC

## 74LS299
designator U?
pins: 1 S0 (in), 2 G1 (in), 3 G2 (in), 4 G/QG (io), 5 E/QE (io), 6 C/QC (io), 7 A/QA (io), 8 ~{QA} (out), 9 CLR (in), 10 GND (power) hidden to GND, 11 SR (in), 12 CLK (in), 13 B/QB (io), 14 D/QD (io), 15 F/QF (io), 16 H/QH (io), 17 ~{QH} (out), 18 SL (in), 19 S1 (in), 20 VCC (power) hidden to VCC

## 74LS320
designator U?
pins: 1 TANK1 (in), 2 TANK2 (in), 4 FFQ (out), 5 FFD (in), 7 F (out), 8 GND (power) hidden to GND, 9 ~{F'} (out), 10 F' (out), 12 ~{F} (out), 14 XTAL1 (in), 15 XTAL2 (in), 16 VCC (power) hidden to VCC

## 74LS321
designator U?
pins: 1 TANK1 (in), 2 TANK2 (in), 4 FFQ (out), 5 FFD (in), 6 F/4 (out), 7 F (out), 8 GND (power) hidden to GND, 9 ~{F'} (out), 10 F' (out), 12 ~{F} (out), 13 F/2 (out), 14 XTAL1 (in), 15 XTAL2 (in), 16 VCC (power) hidden to VCC

## 74LS322
designator U?
pins: 1 G (in), 2 S/~{P} (in), 3 D0 (in), 4 A/QA (io), 5 C/QC (io), 6 E/QE (io), 7 G/QG (io), 8 OE (in), 9 CLR (in), 10 GND (power) hidden to GND, 11 CLK (in), 12 ~{QH} (hiz), 13 H/QH (io), 14 F/QF (io), 15 D/QD (io), 16 B/QB (io), 17 D1 (in), 18 SE (in), 19 DS (in), 20 VCC (power) hidden to VCC

## 74LS348
designator U?
pins: 1 4 (in), 2 5 (in), 3 6 (in), 4 7 (in), 5 EI (in), 6 A2 (hiz), 7 A1 (hiz), 8 GND (power) hidden to GND, 9 A0 (hiz), 10 0 (in), 11 1 (in), 12 2 (in), 13 3 (in), 14 GS (hiz), 15 E0 (out), 16 VCC (power) hidden to VCC

## 74LS352
designator U?
pins: 1 1G (in), 2 B (in), 3 1C3 (in), 4 1C2 (in), 5 1C1 (in), 6 1C0 (in), 7 1Y (out), 8 GND (power) hidden to GND, 9 2Y (out), 10 2C0 (in), 11 2C1 (in), 12 2C2 (in), 13 2C3 (in), 14 A (in), 15 2G (in), 16 VCC (power) hidden to VCC

## 74LS353
designator U?
pins: 1 1G (in), 2 B (in), 3 1C3 (in), 4 1C2 (in), 5 1C1 (in), 6 1C0 (in), 7 1Y (hiz), 8 GND (power) hidden to GND, 9 2Y (hiz), 10 2C0 (in), 11 2C1 (in), 12 2C2 (in), 13 2C3 (in), 14 A (in), 15 2G (in), 16 VCC (power) hidden to VCC

## 74LS354
designator U?
pins: 1 D7 (in), 2 D6 (in), 3 D5 (in), 4 D4 (in), 5 D3 (in), 6 D2 (in), 7 D1 (in), 8 D0 (in), 9 DC (in), 10 GND (power) hidden to GND, 11 SC (in), 12 S2 (in), 13 S1 (in), 14 S0 (in), 15 G1 (in), 16 G2 (in), 17 G3 (in), 18 W (hiz), 19 Y (out), 20 VCC (power) hidden to VCC

## 74LS355
designator U?
pins: 1 D7 (in), 2 D6 (in), 3 D5 (in), 4 D4 (in), 5 D3 (in), 6 D2 (in), 7 D1 (in), 8 D0 (in), 9 DC (in), 10 GND (power) hidden to GND, 11 SC (in), 12 S2 (in), 13 S1 (in), 14 S0 (in), 15 G1 (in), 16 G2 (in), 17 G3 (in), 18 W (oc), 19 Y (oc), 20 VCC (power) hidden to VCC

## 74LS356
designator U?
pins: 1 D7 (in), 2 D6 (in), 3 D5 (in), 4 D4 (in), 5 D3 (in), 6 D2 (in), 7 D1 (in), 8 D0 (in), 9 CLK (in), 10 GND (power) hidden to GND, 11 SC (in), 12 S2 (in), 13 S1 (in), 14 S0 (in), 15 G1 (in), 16 G2 (in), 17 G3 (in), 18 W (hiz), 19 Y (out), 20 VCC (power) hidden to VCC

## 74LS357
designator U?
pins: 1 D7 (in), 2 D6 (in), 3 D5 (in), 4 D4 (in), 5 D3 (in), 6 D2 (in), 7 D1 (in), 8 D0 (in), 9 CLK (in), 10 GND (power) hidden to GND, 11 SC (in), 12 S2 (in), 13 S1 (in), 14 S0 (in), 15 G1 (in), 16 G2 (in), 17 G3 (in), 18 W (oc), 19 Y (oc), 20 VCC (power) hidden to VCC

## 74LS365
designator U?
pins: 1 G1 (in), 2 A1 (in), 3 Y1 (hiz), 4 A2 (in), 5 Y2 (hiz), 6 A3 (in), 7 Y3 (hiz), 8 GND (power) hidden to GND, 9 Y4 (hiz), 10 A4 (in), 11 Y5 (hiz), 12 A5 (in), 13 Y6 (hiz), 14 A6 (in), 15 G2 (in), 16 VCC (power) hidden to VCC

## 74LS366
designator U?
pins: 1 G1 (in), 2 A1 (in), 3 Y1 (hiz), 4 A2 (in), 5 Y2 (hiz), 6 A3 (in), 7 Y3 (hiz), 8 GND (power) hidden to GND, 9 Y4 (hiz), 10 A4 (in), 11 Y5 (hiz), 12 A5 (in), 13 Y6 (hiz), 14 A6 (in), 15 G2 (in), 16 VCC (power) hidden to VCC

## 74LS367
designator U?
pins: 1 1G (in), 2 1A1 (in), 3 1Y1 (hiz), 4 1A2 (in), 5 1Y2 (hiz), 6 1A3 (in), 7 1Y3 (hiz), 8 GND (power) hidden to GND, 9 1Y4 (hiz), 10 1A4 (in), 11 2Y1 (hiz), 12 2A1 (in), 13 2Y2 (hiz), 14 2A2 (in), 15 2G (in), 16 VCC (power) hidden to VCC

## 74LS368
designator U?
pins: 1 1G (in), 2 1A1 (in), 3 1Y1 (hiz), 4 1A2 (in), 5 1Y2 (hiz), 6 1A3 (in), 7 1Y3 (hiz), 8 GND (power) hidden to GND, 9 1Y4 (hiz), 10 1A4 (in), 11 2Y1 (hiz), 12 2A1 (in), 13 2Y2 (hiz), 14 2A2 (in), 15 2G (in), 16 VCC (power) hidden to VCC

## 74LS373
designator U?
pins: 1 OC (in), 2 Q0 (hiz), 3 D0 (in), 4 D1 (in), 5 Q1 (hiz), 6 Q2 (hiz), 7 D2 (in), 8 D3 (in), 9 Q3 (hiz), 10 GND (power) hidden to GND, 11 G (in), 12 Q4 (hiz), 13 D4 (in), 14 D5 (in), 15 Q5 (hiz), 16 Q6 (hiz), 17 D6 (in), 18 D7 (in), 19 Q7 (hiz), 20 VCC (power) hidden to VCC

## 74LS374
designator U?
pins: 1 OC (in), 2 Q0 (hiz), 3 D0 (in), 4 D1 (in), 5 Q1 (hiz), 6 Q2 (hiz), 7 D2 (in), 8 D3 (in), 9 Q3 (hiz), 10 GND (power) hidden to GND, 11 CLK (in), 12 Q4 (hiz), 13 D4 (in), 14 D5 (in), 15 Q5 (hiz), 16 Q6 (hiz), 17 D6 (in), 18 D7 (in), 19 Q7 (hiz), 20 VCC (power) hidden to VCC

## 74LS375
designator U?
pins: 1 1D (in), 2 ~{1Q} (out), 3 1Q (out), 4 1C2C (in), 5 2Q (out), 6 ~{2Q} (out), 7 2D (in), 8 GND (power) hidden to GND, 9 3D (in), 10 ~{3Q} (out), 11 3Q (out), 12 3C4C (in), 13 4Q (out), 14 ~{4Q} (out), 15 4D (in), 16 VCC (power) hidden to VCC

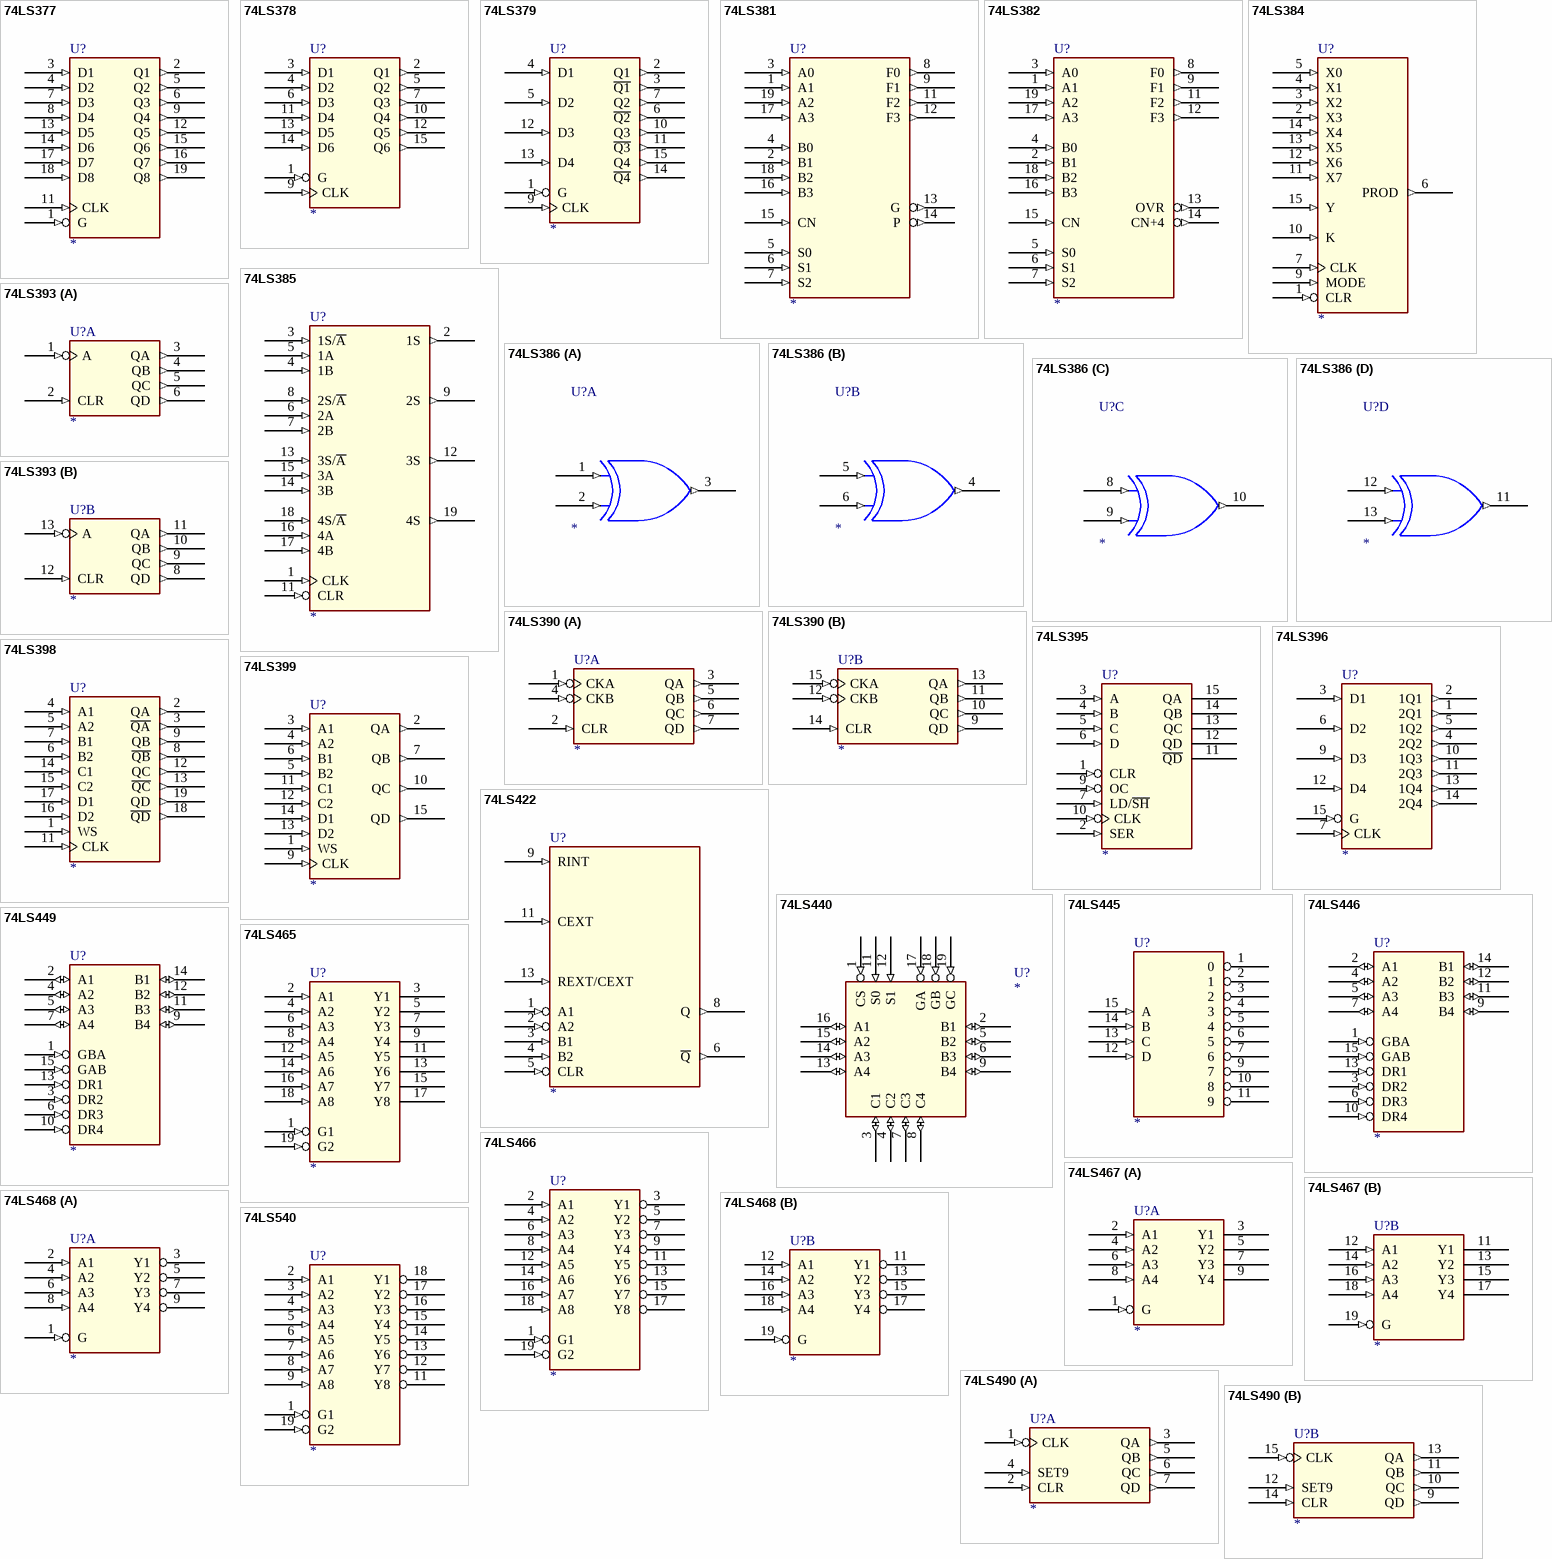
[diagram p19: symbols 74LS377 to 74LS540]

## 74LS377
designator U?
pins: 1 G (in), 2 Q1 (out), 3 D1 (in), 4 D2 (in), 5 Q2 (out), 6 Q3 (out), 7 D3 (in), 8 D4 (in), 9 Q4 (out), 10 GND (power) hidden to GND, 11 CLK (in), 12 Q5 (out), 13 D5 (in), 14 D6 (in), 15 Q6 (out), 16 Q7 (out), 17 D7 (in), 18 D8 (in), 19 Q8 (out), 20 VCC (power) hidden to VCC

## 74LS378
designator U?
pins: 1 G (in), 2 Q1 (out), 3 D1 (in), 4 D2 (in), 5 Q2 (out), 6 D3 (in), 7 Q3 (out), 8 GND (power) hidden to GND, 9 CLK (in), 10 Q4 (out), 11 D4 (in), 12 Q5 (out), 13 D5 (in), 14 D6 (in), 15 Q6 (out), 16 VCC (power) hidden to VCC

## 74LS379
designator U?
pins: 1 G (in), 2 Q1 (out), 3 ~{Q1} (out), 4 D1 (in), 5 D2 (in), 6 ~{Q2} (out), 7 Q2 (out), 8 GND (power) hidden to GND, 9 CLK (in), 10 Q3 (out), 11 ~{Q3} (out), 12 D3 (in), 13 D4 (in), 14 ~{Q4} (out), 15 Q4 (out), 16 VCC (power) hidden to VCC

## 74LS381
designator U?
pins: 1 A1 (in), 2 B1 (in), 3 A0 (in), 4 B0 (in), 5 S0 (in), 6 S1 (in), 7 S2 (in), 8 F0 (out), 9 F1 (out), 10 GND (power) hidden to GND, 11 F2 (out), 12 F3 (out), 13 G (out), 14 P (out), 15 CN (in), 16 B3 (in), 17 A3 (in), 18 B2 (in), 19 A2 (in), 20 VCC (power) hidden to VCC

## 74LS382
designator U?
pins: 1 A1 (in), 2 B1 (in), 3 A0 (in), 4 B0 (in), 5 S0 (in), 6 S1 (in), 7 S2 (in), 8 F0 (out), 9 F1 (out), 10 GND (power) hidden to GND, 11 F2 (out), 12 F3 (out), 13 OVR (out), 14 CN+4 (out), 15 CN (in), 16 B3 (in), 17 A3 (in), 18 B2 (in), 19 A2 (in), 20 VCC (power) hidden to VCC

## 74LS384
designator U?
pins: 1 CLR (in), 2 X3 (in), 3 X2 (in), 4 X1 (in), 5 X0 (in), 6 PROD (out), 7 CLK (in), 8 GND (power) hidden to GND, 9 MODE (in), 10 K (in), 11 X7 (in), 12 X6 (in), 13 X5 (in), 14 X4 (in), 15 Y (in), 16 VCC (power) hidden to VCC

## 74LS385
designator U?
pins: 1 CLK (in), 2 1S (out), 3 1S/~{A} (in), 4 1B (in), 5 1A (in), 6 2A (in), 7 2B (in), 8 2S/~{A} (in), 9 2S (out), 10 GND (power) hidden to GND, 11 CLR (in), 12 3S (out), 13 3S/~{A} (in), 14 3B (in), 15 3A (in), 16 4A (in), 17 4B (in), 18 4S/~{A} (in), 19 4S (out), 20 VCC (power) hidden to VCC

## 74LS386
designator U?
part A pins: 1 I0 (in), 2 I1 (in), 3 O (out), 7 GND (power) hidden to GND, 14 VCC (power) hidden to VCC
part B pins: 4 O (out), 5 I0 (in), 6 I1 (in), 7 GND (power) hidden to GND, 14 VCC (power) hidden to VCC
part C pins: 7 GND (power) hidden to GND, 8 I0 (in), 9 I1 (in), 10 O (out), 14 VCC (power) hidden to VCC
part D pins: 7 GND (power) hidden to GND, 11 O (out), 12 I0 (in), 13 I1 (in), 14 VCC (power) hidden to VCC

## 74LS390
designator U?
part A pins: 1 CKA (in), 2 CLR (in), 3 QA (out), 4 CKB (in), 5 QB (out), 6 QC (out), 7 QD (out), 8 GND (power) hidden to GND, 16 VCC (power) hidden to VCC
part B pins: 8 GND (power) hidden to GND, 9 QD (out), 10 QC (out), 11 QB (out), 12 CKB (in), 13 QA (out), 14 CLR (in), 15 CKA (in), 16 VCC (power) hidden to VCC

## 74LS393
designator U?
part A pins: 1 A (in), 2 CLR (in), 3 QA (out), 4 QB (out), 5 QC (out), 6 QD (out), 7 GND (power) hidden to GND, 14 VCC (power) hidden to VCC
part B pins: 7 GND (power) hidden to GND, 8 QD (out), 9 QC (out), 10 QB (out), 11 QA (out), 12 CLR (in), 13 A (in), 14 VCC (power) hidden to VCC

## 74LS395
designator U?
pins: 1 CLR (in), 2 SER (in), 3 A (in), 4 B (in), 5 C (in), 6 D (in), 7 LD/~{SH} (in), 8 GND (power) hidden to GND, 9 OC (in), 10 CLK (in), 11 ~{QD} (hiz), 12 QD (hiz), 13 QC (hiz), 14 QB (hiz), 15 QA (hiz), 16 VCC (power) hidden to VCC

## 74LS396
designator U?
pins: 1 2Q1 (out), 2 1Q1 (out), 3 D1 (in), 4 2Q2 (out), 5 1Q2 (out), 6 D2 (in), 7 CLK (in), 8 GND (power) hidden to GND, 9 D3 (in), 10 1Q3 (out), 11 2Q3 (out), 12 D4 (in), 13 1Q4 (out), 14 2Q4 (out), 15 G (in), 16 VCC (power) hidden to VCC

## 74LS398
designator U?
pins: 1 WS (in), 2 QA (out), 3 ~{QA} (out), 4 A1 (in), 5 A2 (in), 6 B2 (in), 7 B1 (in), 8 ~{QB} (out), 9 QB (out), 10 GND (power) hidden to GND, 11 CLK (in), 12 QC (out), 13 ~{QC} (out), 14 C1 (in), 15 C2 (in), 16 D2 (in), 17 D1 (in), 18 ~{QD} (out), 19 QD (out), 20 VCC (power) hidden to VCC

## 74LS399
designator U?
pins: 1 WS (in), 2 QA (out), 3 A1 (in), 4 A2 (in), 5 B2 (in), 6 B1 (in), 7 QB (out), 8 GND (power) hidden to GND, 9 CLK (in), 10 QC (out), 11 C1 (in), 12 C2 (in), 13 D2 (in), 14 D1 (in), 15 QD (out), 16 VCC (power) hidden to VCC

## 74LS422
designator U?
pins: 1 A1 (in), 2 A2 (in), 3 B1 (in), 4 B2 (in), 5 CLR (in), 6 ~{Q} (out), 7 GND (power) hidden to GND, 8 Q (out), 9 RINT (in), 11 CEXT (in), 13 REXT/CEXT (in), 14 VCC (power) hidden to VCC

## 74LS440
designator U?
pins: 1 CS (in), 2 B1 (io), 3 C1 (io), 4 C2 (io), 5 B2 (io), 6 B3 (io), 7 C3 (io), 8 C4 (io), 9 B4 (io), 10 GND (power) hidden to GND, 11 S0 (in), 12 S1 (in), 13 A4 (io), 14 A3 (io), 15 A2 (io), 16 A1 (io), 17 GA (in), 18 GB (in), 19 GC (in), 20 VCC (power) hidden to VCC

## 74LS445
designator U?
pins: 1 0 (oc), 2 1 (oc), 3 2 (oc), 4 3 (oc), 5 4 (oc), 6 5 (oc), 7 6 (oc), 8 GND (power) hidden to GND, 9 7 (oc), 10 8 (oc), 11 9 (oc), 12 D (in), 13 C (in), 14 B (in), 15 A (in), 16 VCC (power) hidden to VCC

## 74LS446
designator U?
pins: 1 GBA (in), 2 A1 (io), 3 DR2 (in), 4 A2 (io), 5 A3 (io), 6 DR3 (in), 7 A4 (io), 8 GND (power) hidden to GND, 9 B4 (io), 10 DR4 (in), 11 B3 (io), 12 B2 (io), 13 DR1 (in), 14 B1 (io), 15 GAB (in), 16 VCC (power) hidden to VCC

## 74LS449
designator U?
pins: 1 GBA (in), 2 A1 (io), 3 DR2 (in), 4 A2 (io), 5 A3 (io), 6 DR3 (in), 7 A4 (io), 8 GND (power) hidden to GND, 9 B4 (io), 10 DR4 (in), 11 B3 (io), 12 B2 (io), 13 DR1 (in), 14 B1 (io), 15 GAB (in), 16 VCC (power) hidden to VCC

## 74LS465
designator U?
pins: 1 G1 (in), 2 A1 (in), 3 Y1 (hiz), 4 A2 (in), 5 Y2 (hiz), 6 A3 (in), 7 Y3 (hiz), 8 A4 (in), 9 Y4 (hiz), 10 GND (power) hidden to GND, 11 Y5 (hiz), 12 A5 (in), 13 Y6 (hiz), 14 A6 (in), 15 Y7 (hiz), 16 A7 (in), 17 Y8 (hiz), 18 A8 (in), 19 G2 (in), 20 VCC (power) hidden to VCC

## 74LS466
designator U?
pins: 1 G1 (in), 2 A1 (in), 3 Y1 (hiz), 4 A2 (in), 5 Y2 (hiz), 6 A3 (in), 7 Y3 (hiz), 8 A4 (in), 9 Y4 (hiz), 10 GND (power) hidden to GND, 11 Y5 (hiz), 12 A5 (in), 13 Y6 (hiz), 14 A6 (in), 15 Y7 (hiz), 16 A7 (in), 17 Y8 (hiz), 18 A8 (in), 19 G2 (in), 20 VCC (power) hidden to VCC

## 74LS467
designator U?
part A pins: 1 G (in), 2 A1 (in), 3 Y1 (hiz), 4 A2 (in), 5 Y2 (hiz), 6 A3 (in), 7 Y3 (hiz), 8 A4 (in), 9 Y4 (hiz), 10 GND (power) hidden to GND, 20 VCC (power) hidden to VCC
part B pins: 10 GND (power) hidden to GND, 11 Y1 (hiz), 12 A1 (in), 13 Y2 (hiz), 14 A2 (in), 15 Y3 (hiz), 16 A3 (in), 17 Y4 (hiz), 18 A4 (in), 19 G (in), 20 VCC (power) hidden to VCC

## 74LS468
designator U?
part A pins: 1 G (in), 2 A1 (in), 3 Y1 (hiz), 4 A2 (in), 5 Y2 (hiz), 6 A3 (in), 7 Y3 (hiz), 8 A4 (in), 9 Y4 (hiz), 10 GND (power) hidden to GND, 20 VCC (power) hidden to VCC
part B pins: 10 GND (power) hidden to GND, 11 Y1 (hiz), 12 A1 (in), 13 Y2 (hiz), 14 A2 (in), 15 Y3 (hiz), 16 A3 (in), 17 Y4 (hiz), 18 A4 (in), 19 G (in), 20 VCC (power) hidden to VCC

## 74LS490
designator U?
part A pins: 1 CLK (in), 2 CLR (in), 3 QA (out), 4 SET9 (in), 5 QB (out), 6 QC (out), 7 QD (out), 8 GND (power) hidden to GND, 16 VCC (power) hidden to VCC
part B pins: 8 GND (power) hidden to GND, 9 QD (out), 10 QC (out), 11 QB (out), 12 SET9 (in), 13 QA (out), 14 CLR (in), 15 CLK (in), 16 VCC (power) hidden to VCC

## 74LS540
designator U?
pins: 1 G1 (in), 2 A1 (in), 3 A2 (in), 4 A3 (in), 5 A4 (in), 6 A5 (in), 7 A6 (in), 8 A7 (in), 9 A8 (in), 10 GND (power) hidden to GND, 11 Y8 (hiz), 12 Y7 (hiz), 13 Y6 (hiz), 14 Y5 (hiz), 15 Y4 (hiz), 16 Y3 (hiz), 17 Y2 (hiz), 18 Y1 (hiz), 19 G2 (in), 20 VCC (power) hidden to VCC

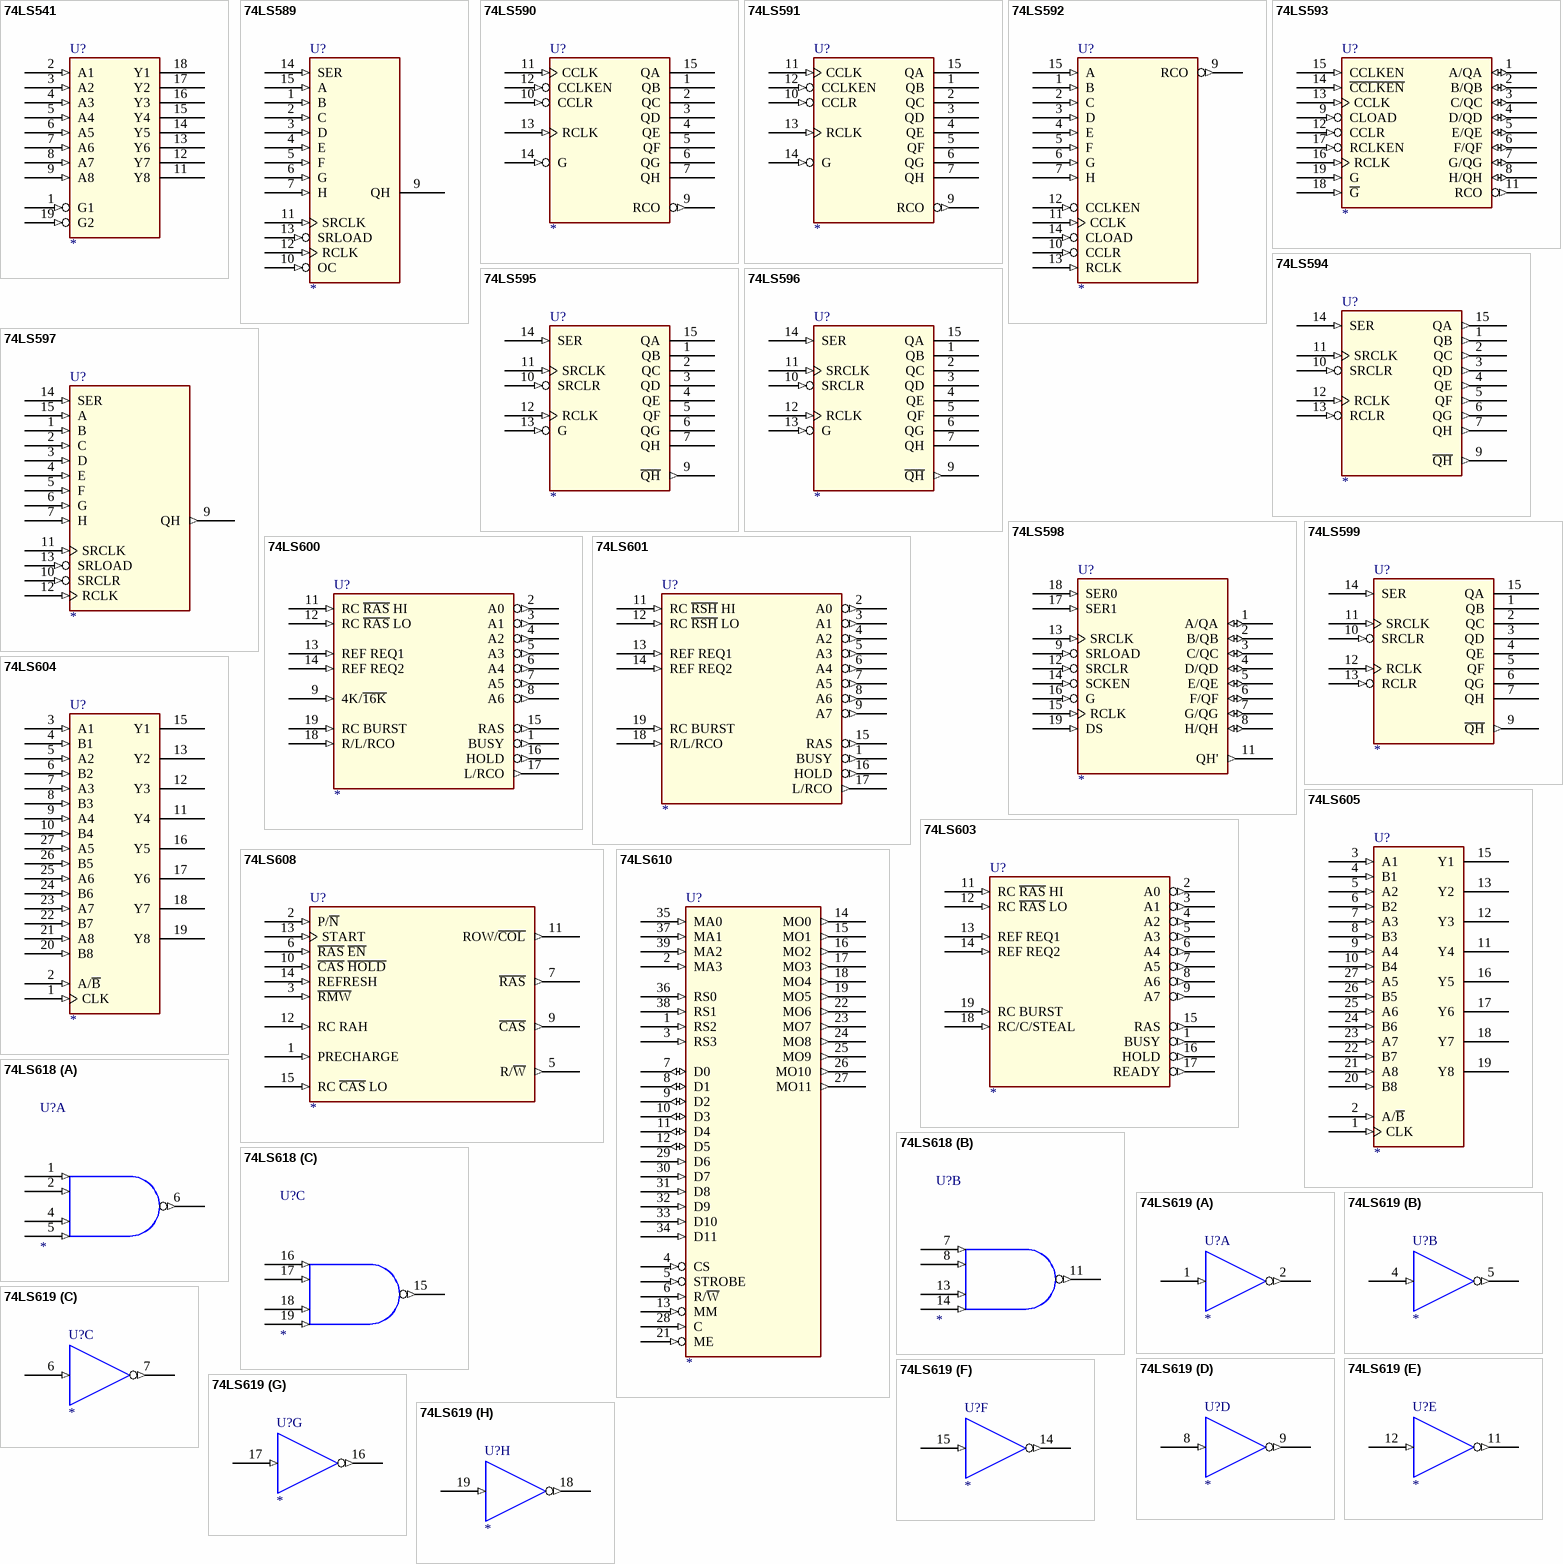
[diagram p20: symbols 74LS541 to 74LS619]

## 74LS541
designator U?
pins: 1 G1 (in), 2 A1 (in), 3 A2 (in), 4 A3 (in), 5 A4 (in), 6 A5 (in), 7 A6 (in), 8 A7 (in), 9 A8 (in), 10 GND (power) hidden to GND, 11 Y8 (hiz), 12 Y7 (hiz), 13 Y6 (hiz), 14 Y5 (hiz), 15 Y4 (hiz), 16 Y3 (hiz), 17 Y2 (hiz), 18 Y1 (hiz), 19 G2 (in), 20 VCC (power) hidden to VCC

## 74LS589
designator U?
pins: 1 B (in), 2 C (in), 3 D (in), 4 E (in), 5 F (in), 6 G (in), 7 H (in), 8 GND (power) hidden to GND, 9 QH (hiz), 10 OC (in), 11 SRCLK (in), 12 RCLK (in), 13 SRLOAD (in), 14 SER (in), 15 A (in), 16 VCC (power) hidden to VCC

## 74LS590
designator U?
pins: 1 QB (hiz), 2 QC (hiz), 3 QD (hiz), 4 QE (hiz), 5 QF (hiz), 6 QG (hiz), 7 QH (hiz), 8 GND (power) hidden to GND, 9 RCO (out), 10 CCLR (in), 11 CCLK (in), 12 CCLKEN (in), 13 RCLK (in), 14 G (in), 15 QA (hiz), 16 VCC (power) hidden to VCC

## 74LS591
designator U?
pins: 1 QB (oc), 2 QC (oc), 3 QD (oc), 4 QE (oc), 5 QF (oc), 6 QG (oc), 7 QH (oc), 8 GND (power) hidden to GND, 9 RCO (out), 10 CCLR (in), 11 CCLK (in), 12 CCLKEN (in), 13 RCLK (in), 14 G (in), 15 QA (oc), 16 VCC (power) hidden to VCC

## 74LS592
designator U?
pins: 1 B (in), 2 C (in), 3 D (in), 4 E (in), 5 F (in), 6 G (in), 7 H (in), 8 GND (power) hidden to GND, 9 RCO (out), 10 CCLR (in), 11 CCLK (in), 12 CCLKEN (in), 13 RCLK (in), 14 CLOAD (in), 15 A (in), 16 VCC (power) hidden to VCC

## 74LS593
designator U?
pins: 1 A/QA (io), 2 B/QB (io), 3 C/QC (io), 4 D/QD (io), 5 E/QE (io), 6 F/QF (io), 7 G/QG (io), 8 H/QH (io), 9 CLOAD (in), 10 GND (power) hidden to GND, 11 RCO (out), 12 CCLR (in), 13 CCLK (in), 14 ~{CCLKEN} (in), 15 CCLKEN (in), 16 RCLK (in), 17 RCLKEN (in), 18 ~{G} (in), 19 G (in), 20 VCC (power) hidden to VCC

## 74LS594
designator U?
pins: 1 QB (out), 2 QC (out), 3 QD (out), 4 QE (out), 5 QF (out), 6 QG (out), 7 QH (out), 8 GND (power) hidden to GND, 9 ~{QH} (out), 10 SRCLR (in), 11 SRCLK (in), 12 RCLK (in), 13 RCLR (in), 14 SER (in), 15 QA (out), 16 VCC (power) hidden to VCC

## 74LS595
designator U?
pins: 1 QB (hiz), 2 QC (hiz), 3 QD (hiz), 4 QE (hiz), 5 QF (hiz), 6 QG (hiz), 7 QH (hiz), 8 GND (power) hidden to GND, 9 ~{QH} (out), 10 SRCLR (in), 11 SRCLK (in), 12 RCLK (in), 13 G (in), 14 SER (in), 15 QA (hiz), 16 VCC (power) hidden to VCC

## 74LS596
designator U?
pins: 1 QB (oc), 2 QC (oc), 3 QD (oc), 4 QE (oc), 5 QF (oc), 6 QG (oc), 7 QH (oc), 8 GND (power) hidden to GND, 9 ~{QH} (out), 10 SRCLR (in), 11 SRCLK (in), 12 RCLK (in), 13 G (in), 14 SER (in), 15 QA (oc), 16 VCC (power) hidden to VCC

## 74LS597
designator U?
pins: 1 B (in), 2 C (in), 3 D (in), 4 E (in), 5 F (in), 6 G (in), 7 H (in), 8 GND (power) hidden to GND, 9 QH (out), 10 SRCLR (in), 11 SRCLK (in), 12 RCLK (in), 13 SRLOAD (in), 14 SER (in), 15 A (in), 16 VCC (power) hidden to VCC

## 74LS598
designator U?
pins: 1 A/QA (io), 2 B/QB (io), 3 C/QC (io), 4 D/QD (io), 5 E/QE (io), 6 F/QF (io), 7 G/QG (io), 8 H/QH (io), 9 SRLOAD (in), 10 GND (power) hidden to GND, 11 QH' (out), 12 SRCLR (in), 13 SRCLK (in), 14 SCKEN (in), 15 RCLK (in), 16 G (in), 17 SER1 (in), 18 SER0 (in), 19 DS (in), 20 VCC (power) hidden to VCC

## 74LS599
designator U?
pins: 1 QB (oc), 2 QC (oc), 3 QD (oc), 4 QE (oc), 5 QF (oc), 6 QG (oc), 7 QH (oc), 8 GND (power) hidden to GND, 9 ~{QH} (out), 10 SRCLR (in), 11 SRCLK (in), 12 RCLK (in), 13 RCLR (in), 14 SER (in), 15 QA (oc), 16 VCC (power) hidden to VCC

## 74LS600
designator U?
pins: 1 BUSY (out), 2 A0 (out), 3 A1 (out), 4 A2 (out), 5 A3 (out), 6 A4 (out), 7 A5 (out), 8 A6 (out), 9 4K/~{16K} (in), 10 GND (power) hidden to GND, 11 RC ~{RAS} HI (in), 12 RC ~{RAS} LO (in), 13 REF REQ1 (in), 14 REF REQ2 (in), 15 RAS (out), 16 HOLD (out), 17 L/RCO (out), 18 R/L/RCO (in), 19 RC BURST (in), 20 VCC (power) hidden to VCC

## 74LS601
designator U?
pins: 1 BUSY (out), 2 A0 (out), 3 A1 (out), 4 A2 (out), 5 A3 (out), 6 A4 (out), 7 A5 (out), 8 A6 (out), 9 A7 (out), 10 GND (power) hidden to GND, 11 RC ~{RSH} HI (in), 12 RC ~{RSH} LO (in), 13 REF REQ1 (in), 14 REF REQ2 (in), 15 RAS (out), 16 HOLD (out), 17 L/RCO (out), 18 R/L/RCO (in), 19 RC BURST (in), 20 VCC (power) hidden to VCC

## 74LS603
designator U?
pins: 1 BUSY (out), 2 A0 (out), 3 A1 (out), 4 A2 (out), 5 A3 (out), 6 A4 (out), 7 A5 (out), 8 A6 (out), 9 A7 (out), 10 GND (power) hidden to GND, 11 RC ~{RAS} HI (in), 12 RC ~{RAS} LO (in), 13 REF REQ1 (in), 14 REF REQ2 (in), 15 RAS (out), 16 HOLD (out), 17 READY (out), 18 RC/C/STEAL (in), 19 RC BURST (in), 20 VCC (power) hidden to VCC

## 74LS604
designator U?
pins: 1 CLK (in), 2 A/~{B} (in), 3 A1 (in), 4 B1 (in), 5 A2 (in), 6 B2 (in), 7 A3 (in), 8 B3 (in), 9 A4 (in), 10 B4 (in), 11 Y4 (hiz), 12 Y3 (hiz), 13 Y2 (hiz), 14 GND (power) hidden to GND, 15 Y1 (hiz), 16 Y5 (hiz), 17 Y6 (hiz), 18 Y7 (hiz), 19 Y8 (hiz), 20 B8 (in), 21 A8 (in), 22 B7 (in), 23 A7 (in), 24 B6 (in), 25 A6 (in), 26 B5 (in), 27 A5 (in), 28 VCC (power) hidden to VCC

## 74LS605
designator U?
pins: 1 CLK (in), 2 A/~{B} (in), 3 A1 (in), 4 B1 (in), 5 A2 (in), 6 B2 (in), 7 A3 (in), 8 B3 (in), 9 A4 (in), 10 B4 (in), 11 Y4 (oc), 12 Y3 (oc), 13 Y2 (oc), 14 GND (power) hidden to GND, 15 Y1 (oc), 16 Y5 (oc), 17 Y6 (oc), 18 Y7 (oc), 19 Y8 (oc), 20 B8 (in), 21 A8 (in), 22 B7 (in), 23 A7 (in), 24 B6 (in), 25 A6 (in), 26 B5 (in), 27 A5 (in), 28 VCC (power) hidden to VCC

## 74LS608
designator U?
pins: 1 PRECHARGE (in), 2 P/~{N} (in), 3 ~{RMW} (in), 5 R/~{W} (out), 6 ~{RAS} ~{EN} (in), 7 ~{RAS} (out), 8 GND (power) hidden to GND, 9 ~{CAS} (out), 10 ~{CAS} ~{HOLD} (in), 11 ROW/~{COL} (out), 12 RC RAH (in), 13 START (in), 14 REFRESH (in), 15 RC ~{CAS} LO (in), 16 VCC (power) hidden to VCC

## 74LS610
designator U?
pins: 1 RS2 (in), 2 MA3 (in), 3 RS3 (in), 4 CS (in), 5 STROBE (in), 6 R/~{W} (in), 7 D0 (io), 8 D1 (io), 9 D2 (io), 10 D3 (io), 11 D4 (io), 12 D5 (io), 13 MM (in), 14 MO0 (out), 15 MO1 (out), 16 MO2 (out), 17 MO3 (out), 18 MO4 (out), 19 MO5 (out), 20 GND (power) hidden to GND, 21 ME (in), 22 MO6 (out), 23 MO7 (out), 24 MO8 (out), 25 MO9 (out), 26 MO10 (out), 27 MO11 (out), 28 C (in), 29 D6 (in), 30 D7 (in), 31 D8 (in), 32 D9 (in), 33 D10 (in), 34 D11 (in), 35 MA0 (in), 36 RS0 (in), 37 MA1 (in), 38 RS1 (in), 39 MA2 (in), 40 VCC (power) hidden to VCC

## 74LS618
designator U?
part A pins: 1 I0 (in), 2 I1 (in), 4 I2 (in), 5 I3 (in), 6 O (out), 7 GND (power) hidden to GND, 14 VCC (power) hidden to VCC
part B pins: 7 I0 (in), 7 GND (power) hidden to GND, 8 I1 (in), 11 O (out), 13 I2 (in), 14 I3 (in), 14 VCC (power) hidden to VCC
part C pins: 7 GND (power) hidden to GND, 14 VCC (power) hidden to VCC, 15 O (out), 16 I0 (in), 17 I1 (in), 18 I2 (in), 19 I3 (in)
1 alternate drawing of the same symbol

## 74LS619
designator U?
part A pins: 1 I (in), 2 O (out), 7 GND (power) hidden to GND, 14 VCC (power) hidden to VCC
part B pins: 4 I (in), 5 O (out), 7 GND (power) hidden to GND, 14 VCC (power) hidden to VCC
part C pins: 6 I (in), 7 O (out), 7 GND (power) hidden to GND, 14 VCC (power) hidden to VCC
part D pins: 7 GND (power) hidden to GND, 8 I (in), 9 O (out), 14 VCC (power) hidden to VCC
part E pins: 7 GND (power) hidden to GND, 11 O (out), 12 I (in), 14 VCC (power) hidden to VCC
part F pins: 7 GND (power) hidden to GND, 14 O (out), 14 VCC (power) hidden to VCC, 15 I (in)
part G pins: 7 GND (power) hidden to GND, 14 VCC (power) hidden to VCC, 16 O (out), 17 I (in)
part H pins: 7 GND (power) hidden to GND, 14 VCC (power) hidden to VCC, 18 O (out), 19 I (in)
1 alternate drawing of the same symbol

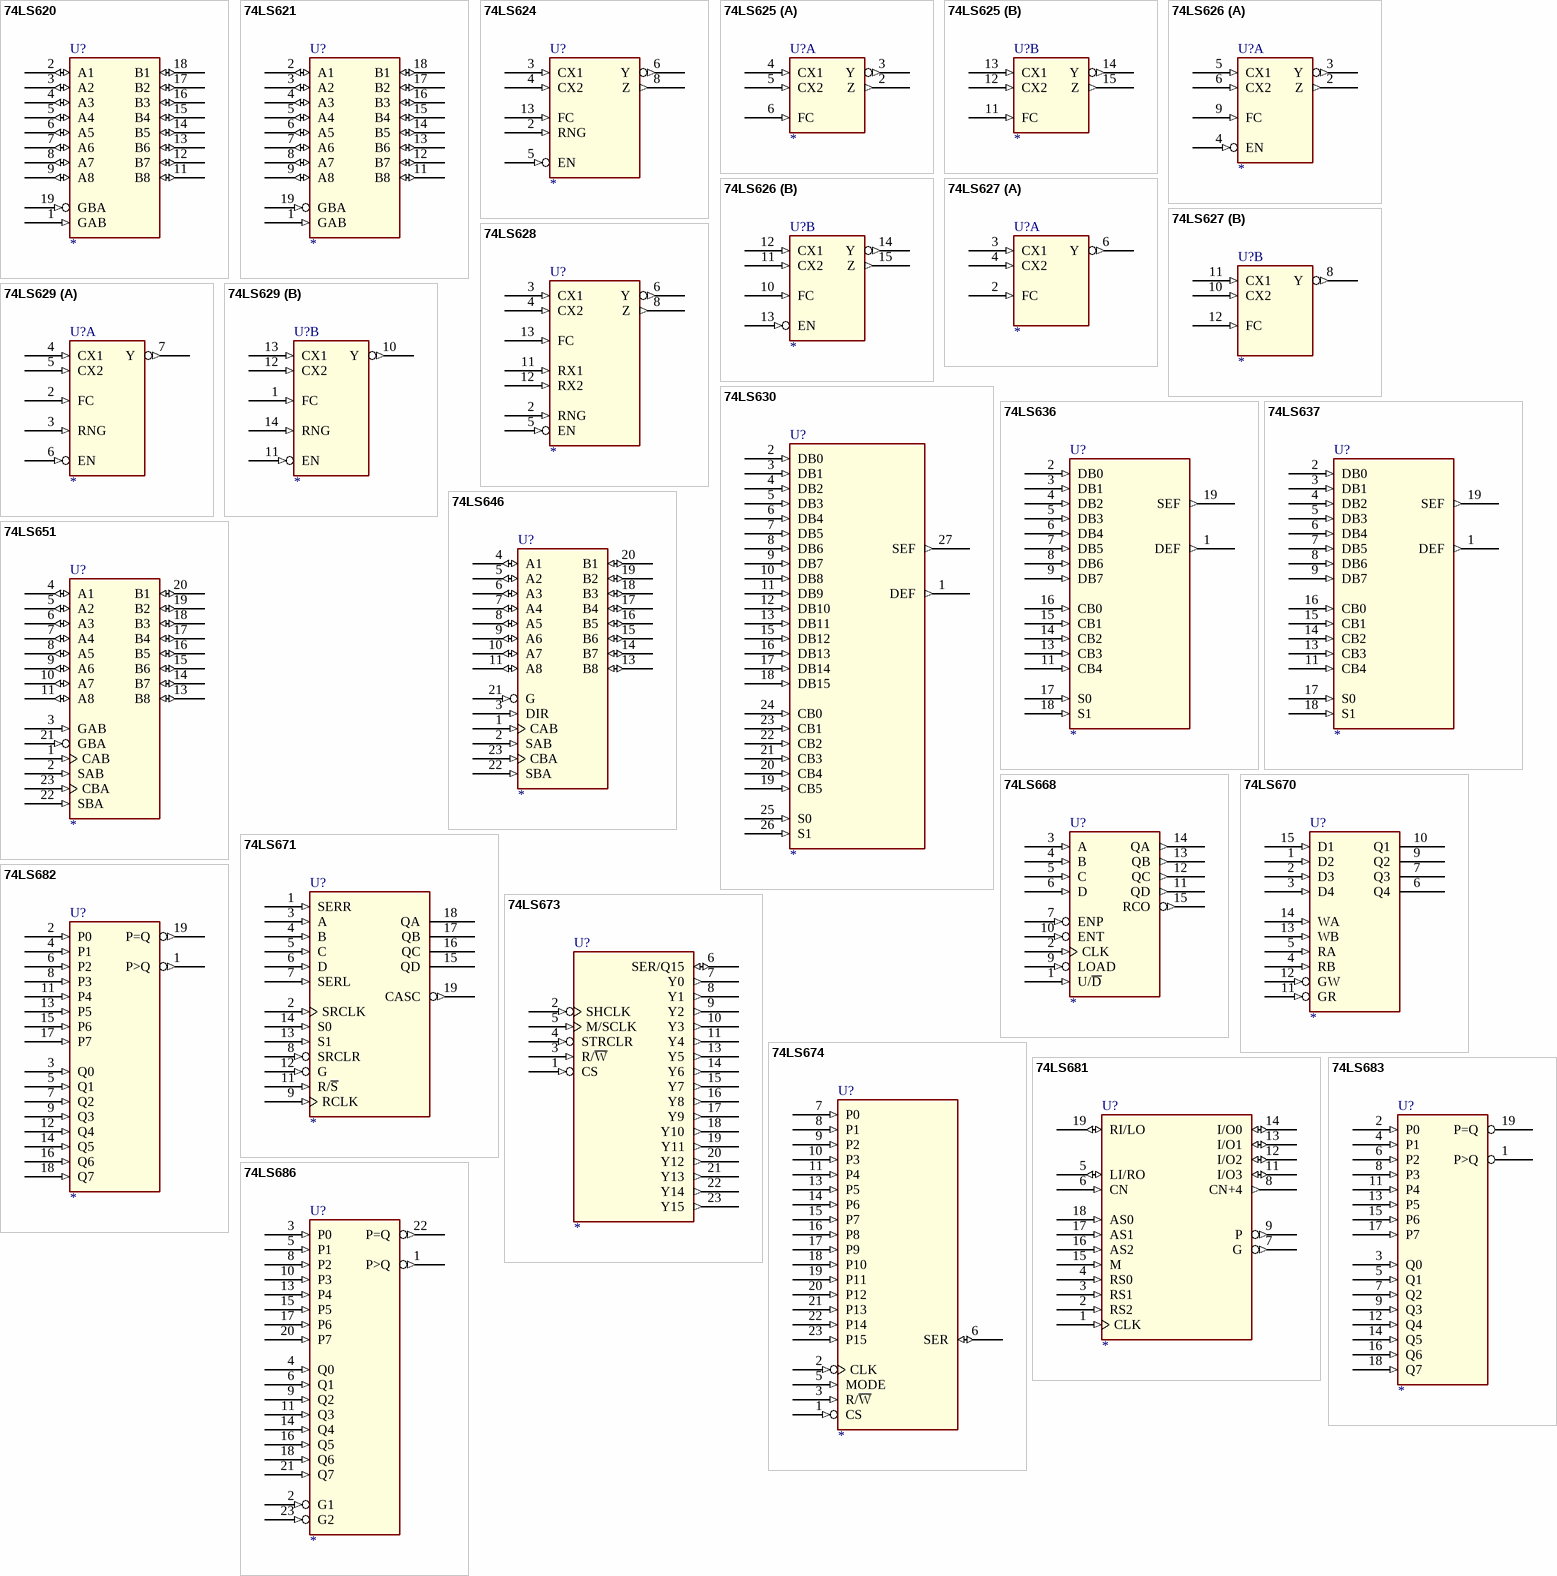
[diagram p21: symbols 74LS620 to 74LS686]

## 74LS620
designator U?
pins: 1 GAB (in), 2 A1 (io), 3 A2 (io), 4 A3 (io), 5 A4 (io), 6 A5 (io), 7 A6 (io), 8 A7 (io), 9 A8 (io), 10 GND (power) hidden to GND, 11 B8 (io), 12 B7 (io), 13 B6 (io), 14 B5 (io), 15 B4 (io), 16 B3 (io), 17 B2 (io), 18 B1 (io), 19 GBA (in), 20 VCC (power) hidden to VCC

## 74LS621
designator U?
pins: 1 GAB (in), 2 A1 (io), 3 A2 (io), 4 A3 (io), 5 A4 (io), 6 A5 (io), 7 A6 (io), 8 A7 (io), 9 A8 (io), 10 GND (power) hidden to GND, 11 B8 (io), 12 B7 (io), 13 B6 (io), 14 B5 (io), 15 B4 (io), 16 B3 (io), 17 B2 (io), 18 B1 (io), 19 GBA (in), 20 VCC (power) hidden to VCC

## 74LS624
designator U?
pins: 1 OSCGND (power) hidden to OSCGND, 2 RNG (in), 3 CX1 (in), 4 CX2 (in), 5 EN (in), 6 Y (out), 7 GND (power) hidden to GND, 8 Z (out), 9 VCC (power) hidden to VCC, 13 FC (in), 14 OSCVCC (power) hidden to OSCVCC

## 74LS625
designator U?
part A pins: 1 GND (power) hidden to GND, 2 Z (out), 3 Y (out), 4 CX1 (in), 5 CX2 (in), 6 FC (in), 7 OSCVCC (power) hidden to OSCVCC, 8 OSCGND (power) hidden to OSCGND, 16 VCC (power) hidden to VCC
part B pins: 1 GND (power) hidden to GND, 9 OSCGND (power) hidden to OSCGND, 10 OSCVCC (power) hidden to OSCVCC, 11 FC (in), 12 CX2 (in), 13 CX1 (in), 14 Y (out), 15 Z (out), 16 VCC (power) hidden to VCC

## 74LS626
designator U?
part A pins: 1 GND (power) hidden to GND, 2 Z (out), 3 Y (out), 4 EN (in), 5 CX1 (in), 6 CX2 (in), 7 OSCVCC (power) hidden to OSCVCC, 8 OSCGND (power) hidden to OSCGND, 9 FC (in), 16 VCC (power) hidden to VCC
part B pins: 1 GND (power) hidden to GND, 7 OSCVCC (power) hidden to OSCVCC, 8 OSCGND (power) hidden to OSCGND, 10 FC (in), 11 CX2 (in), 12 CX1 (in), 13 EN (in), 14 Y (out), 15 Z (out), 16 VCC (power) hidden to VCC

## 74LS627
designator U?
part A pins: 1 OSCVCC (power) hidden to OSCVCC, 2 FC (in), 3 CX1 (in), 4 CX2 (in), 5 OSCGND (power) hidden to OSCGND, 6 Y (out), 7 GND (power) hidden to GND, 14 VCC (power) hidden to VCC
part B pins: 7 GND (power) hidden to GND, 8 Y (out), 9 OSCGND (power) hidden to OSCGND, 10 CX2 (in), 11 CX1 (in), 12 FC (in), 13 OSCVCC (power) hidden to OSCVCC, 14 VCC (power) hidden to VCC

## 74LS628
designator U?
pins: 1 OSCGND (power) hidden to OSCGND, 2 RNG (in), 3 CX1 (in), 4 CX2 (in), 5 EN (in), 6 Y (out), 7 GND (power) hidden to GND, 8 Z (out), 9 VCC (power) hidden to VCC, 11 RX1 (in), 12 RX2 (in), 13 FC (in), 14 OSCVCC (power) hidden to OSCVCC

## 74LS629
designator U?
part A pins: 2 FC (in), 3 RNG (in), 4 CX1 (in), 5 CX2 (in), 6 EN (in), 7 Y (out), 8 OSCGND (power) hidden to OSCGND, 9 GND (power) hidden to GND, 15 OSCVCC (power) hidden to OSCVCC, 16 VCC (power) hidden to VCC
part B pins: 1 FC (in), 8 OSCGND (power) hidden to OSCGND, 9 GND (power) hidden to GND, 10 Y (out), 11 EN (in), 12 CX2 (in), 13 CX1 (in), 14 RNG (in), 15 OSCVCC (power) hidden to OSCVCC, 16 VCC (power) hidden to VCC

## 74LS630
designator U?
pins: 1 DEF (out), 2 DB0 (in), 3 DB1 (in), 4 DB2 (in), 5 DB3 (in), 6 DB4 (in), 7 DB5 (in), 8 DB6 (in), 9 DB7 (in), 10 DB8 (in), 11 DB9 (in), 12 DB10 (in), 13 DB11 (in), 14 GND (power) hidden to GND, 15 DB12 (in), 16 DB13 (in), 17 DB14 (in), 18 DB15 (in), 19 CB5 (in), 20 CB4 (in), 21 CB3 (in), 22 CB2 (in), 23 CB1 (in), 24 CB0 (in), 25 S0 (in), 26 S1 (in), 27 SEF (out), 28 VCC (power) hidden to VCC

## 74LS636
designator U?
pins: 1 DEF (out), 2 DB0 (in), 3 DB1 (in), 4 DB2 (in), 5 DB3 (in), 6 DB4 (in), 7 DB5 (in), 8 DB6 (in), 9 DB7 (in), 10 GND (power) hidden to GND, 11 CB4 (in), 13 CB3 (in), 14 CB2 (in), 15 CB1 (in), 16 CB0 (in), 17 S0 (in), 18 S1 (in), 19 SEF (out), 20 VCC (power) hidden to VCC

## 74LS637
designator U?
pins: 1 DEF (out), 2 DB0 (in), 3 DB1 (in), 4 DB2 (in), 5 DB3 (in), 6 DB4 (in), 7 DB5 (in), 8 DB6 (in), 9 DB7 (in), 10 GND (power) hidden to GND, 11 CB4 (in), 13 CB3 (in), 14 CB2 (in), 15 CB1 (in), 16 CB0 (in), 17 S0 (in), 18 S1 (in), 19 SEF (out), 20 VCC (power) hidden to VCC

## 74LS646
designator U?
pins: 1 CAB (in), 2 SAB (in), 3 DIR (in), 4 A1 (io), 5 A2 (io), 6 A3 (io), 7 A4 (io), 8 A5 (io), 9 A6 (io), 10 A7 (io), 11 A8 (io), 12 GND (power) hidden to GND, 13 B8 (io), 14 B7 (io), 15 B6 (io), 16 B5 (io), 17 B4 (io), 18 B3 (io), 19 B2 (io), 20 B1 (io), 21 G (in), 22 SBA (in), 23 CBA (in), 24 VCC (power) hidden to VCC

## 74LS651
designator U?
pins: 1 CAB (in), 2 SAB (in), 3 GAB (in), 4 A1 (io), 5 A2 (io), 6 A3 (io), 7 A4 (io), 8 A5 (io), 9 A6 (io), 10 A7 (io), 11 A8 (io), 12 GND (power) hidden to GND, 13 B8 (io), 14 B7 (io), 15 B6 (io), 16 B5 (io), 17 B4 (io), 18 B3 (io), 19 B2 (io), 20 B1 (io), 21 GBA (in), 22 SBA (in), 23 CBA (in), 24 VCC (power) hidden to VCC

## 74LS668
designator U?
pins: 1 U/~{D} (in), 2 CLK (in), 3 A (in), 4 B (in), 5 C (in), 6 D (in), 7 ENP (in), 8 GND (power) hidden to GND, 9 LOAD (in), 10 ENT (in), 11 QD (out), 12 QC (out), 13 QB (out), 14 QA (out), 15 RCO (out), 16 VCC (power) hidden to VCC

## 74LS670
designator U?
pins: 1 D2 (in), 2 D3 (in), 3 D4 (in), 4 RB (in), 5 RA (in), 6 Q4 (hiz), 7 Q3 (hiz), 8 GND (power) hidden to GND, 9 Q2 (hiz), 10 Q1 (hiz), 11 GR (in), 12 GW (in), 13 WB (in), 14 WA (in), 15 D1 (in), 16 VCC (power) hidden to VCC

## 74LS671
designator U?
pins: 1 SERR (in), 2 SRCLK (in), 3 A (in), 4 B (in), 5 C (in), 6 D (in), 7 SERL (in), 8 SRCLR (in), 9 RCLK (in), 10 GND (power) hidden to GND, 11 R/~{S} (in), 12 G (in), 13 S1 (in), 14 S0 (in), 15 QD (hiz), 16 QC (hiz), 17 QB (hiz), 18 QA (hiz), 19 CASC (out), 20 VCC (power) hidden to VCC

## 74LS673
designator U?
pins: 1 CS (in), 2 SHCLK (in), 3 R/~{W} (in), 4 STRCLR (in), 5 M/SCLK (in), 6 SER/Q15 (io), 7 Y0 (out), 8 Y1 (out), 9 Y2 (out), 10 Y3 (out), 11 Y4 (out), 12 GND (power) hidden to GND, 13 Y5 (out), 14 Y6 (out), 15 Y7 (out), 16 Y8 (out), 17 Y9 (out), 18 Y10 (out), 19 Y11 (out), 20 Y12 (out), 21 Y13 (out), 22 Y14 (out), 23 Y15 (out), 24 VCC (power) hidden to VCC

## 74LS674
designator U?
pins: 1 CS (in), 2 CLK (in), 3 R/~{W} (in), 5 MODE (in), 6 SER (io), 7 P0 (in), 8 P1 (in), 9 P2 (in), 10 P3 (in), 11 P4 (in), 12 GND (power) hidden to GND, 13 P5 (in), 14 P6 (in), 15 P7 (in), 16 P8 (in), 17 P9 (in), 18 P10 (in), 19 P11 (in), 20 P12 (in), 21 P13 (in), 22 P14 (in), 23 P15 (in), 24 VCC (power) hidden to VCC

## 74LS681
designator U?
pins: 1 CLK (in), 2 RS2 (in), 3 RS1 (in), 4 RS0 (in), 5 LI/RO (io), 6 CN (in), 7 G (out), 8 CN+4 (out), 9 P (out), 10 GND (power) hidden to GND, 11 I/O3 (io), 12 I/O2 (io), 13 I/O1 (io), 14 I/O0 (io), 15 M (in), 16 AS2 (in), 17 AS1 (in), 18 AS0 (in), 19 RI/LO (io), 20 VCC (power) hidden to VCC

## 74LS682
designator U?
pins: 1 P>Q (out), 2 P0 (in), 3 Q0 (in), 4 P1 (in), 5 Q1 (in), 6 P2 (in), 7 Q2 (in), 8 P3 (in), 9 Q3 (in), 10 GND (power) hidden to GND, 11 P4 (in), 12 Q4 (in), 13 P5 (in), 14 Q5 (in), 15 P6 (in), 16 Q6 (in), 17 P7 (in), 18 Q7 (in), 19 P=Q (out), 20 VCC (power) hidden to VCC

## 74LS683
designator U?
pins: 1 P>Q (oc), 2 P0 (in), 3 Q0 (in), 4 P1 (in), 5 Q1 (in), 6 P2 (in), 7 Q2 (in), 8 P3 (in), 9 Q3 (in), 10 GND (power) hidden to GND, 11 P4 (in), 12 Q4 (in), 13 P5 (in), 14 Q5 (in), 15 P6 (in), 16 Q6 (in), 17 P7 (in), 18 Q7 (in), 19 P=Q (oc), 20 VCC (power) hidden to VCC

## 74LS686
designator U?
pins: 1 P>Q (out), 2 G1 (in), 3 P0 (in), 4 Q0 (in), 5 P1 (in), 6 Q1 (in), 8 P2 (in), 9 Q2 (in), 10 P3 (in), 11 Q3 (in), 12 GND (power) hidden to GND, 13 P4 (in), 14 Q4 (in), 15 P5 (in), 16 Q5 (in), 17 P6 (in), 18 Q6 (in), 20 P7 (in), 21 Q7 (in), 22 P=Q (out), 23 G2 (in), 24 VCC (power) hidden to VCC

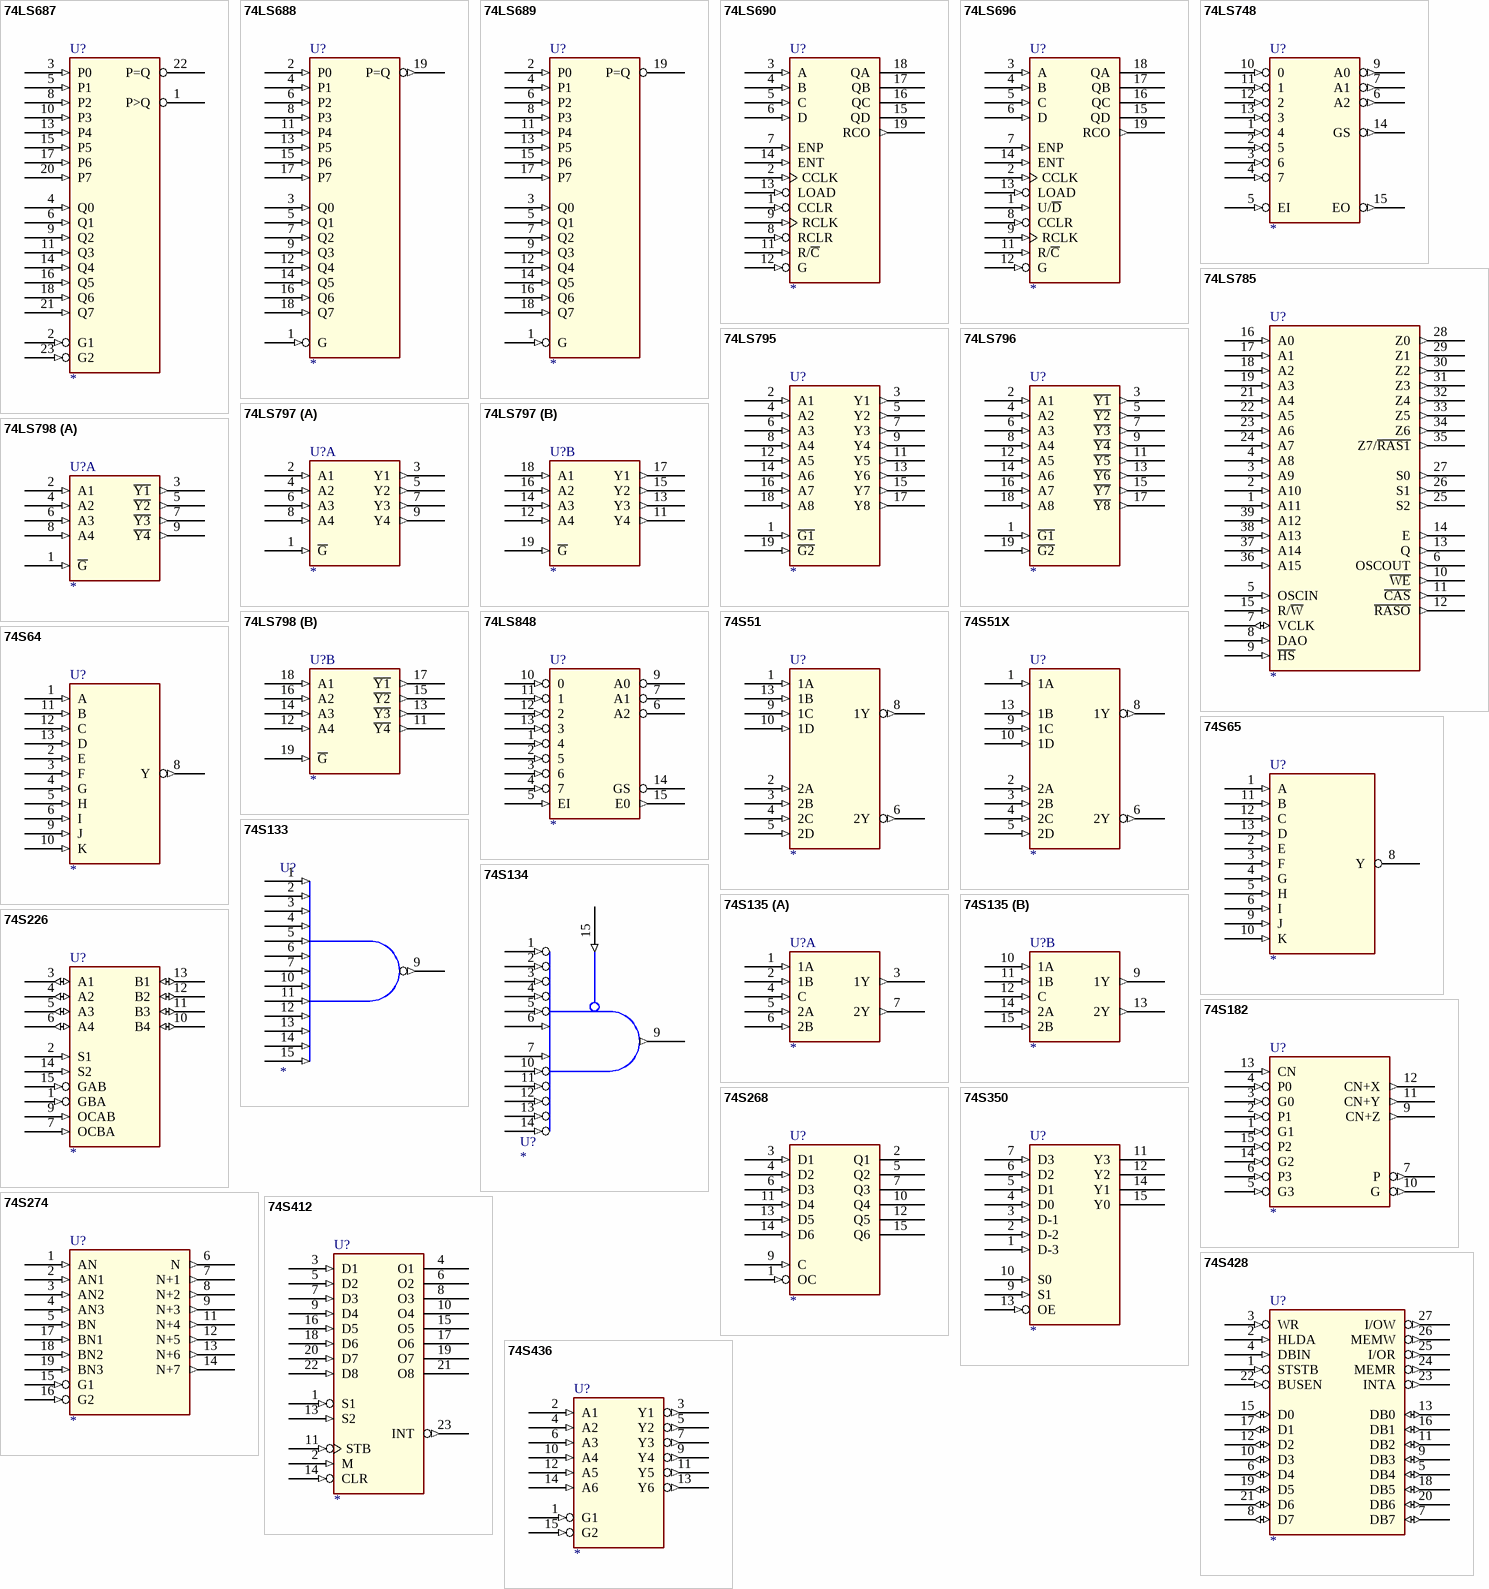
[diagram p22: symbols 74LS687 to 74S436]

## 74LS687
designator U?
pins: 1 P>Q (oc), 2 G1 (in), 3 P0 (in), 4 Q0 (in), 5 P1 (in), 6 Q1 (in), 8 P2 (in), 9 Q2 (in), 10 P3 (in), 11 Q3 (in), 12 GND (power) hidden to GND, 13 P4 (in), 14 Q4 (in), 15 P5 (in), 16 Q5 (in), 17 P6 (in), 18 Q6 (in), 20 P7 (in), 21 Q7 (in), 22 P=Q (oc), 23 G2 (in), 24 VCC (power) hidden to VCC

## 74LS688
designator U?
pins: 1 G (in), 2 P0 (in), 3 Q0 (in), 4 P1 (in), 5 Q1 (in), 6 P2 (in), 7 Q2 (in), 8 P3 (in), 9 Q3 (in), 10 GND (power) hidden to GND, 11 P4 (in), 12 Q4 (in), 13 P5 (in), 14 Q5 (in), 15 P6 (in), 16 Q6 (in), 17 P7 (in), 18 Q7 (in), 19 P=Q (out), 20 VCC (power) hidden to VCC

## 74LS689
designator U?
pins: 1 G (in), 2 P0 (in), 3 Q0 (in), 4 P1 (in), 5 Q1 (in), 6 P2 (in), 7 Q2 (in), 8 P3 (in), 9 Q3 (in), 10 GND (power) hidden to GND, 11 P4 (in), 12 Q4 (in), 13 P5 (in), 14 Q5 (in), 15 P6 (in), 16 Q6 (in), 17 P7 (in), 18 Q7 (in), 19 P=Q (oc), 20 VCC (power) hidden to VCC

## 74LS690
designator U?
pins: 1 CCLR (in), 2 CCLK (in), 3 A (in), 4 B (in), 5 C (in), 6 D (in), 7 ENP (in), 8 RCLR (in), 9 RCLK (in), 10 GND (power) hidden to GND, 11 R/~{C} (in), 12 G (in), 13 LOAD (in), 14 ENT (in), 15 QD (hiz), 16 QC (hiz), 17 QB (hiz), 18 QA (hiz), 19 RCO (out), 20 VCC (power) hidden to VCC